# Altium integrated library Renesas Microcontroller R8C.IntLib: 628 symbols (part 28 of 33)
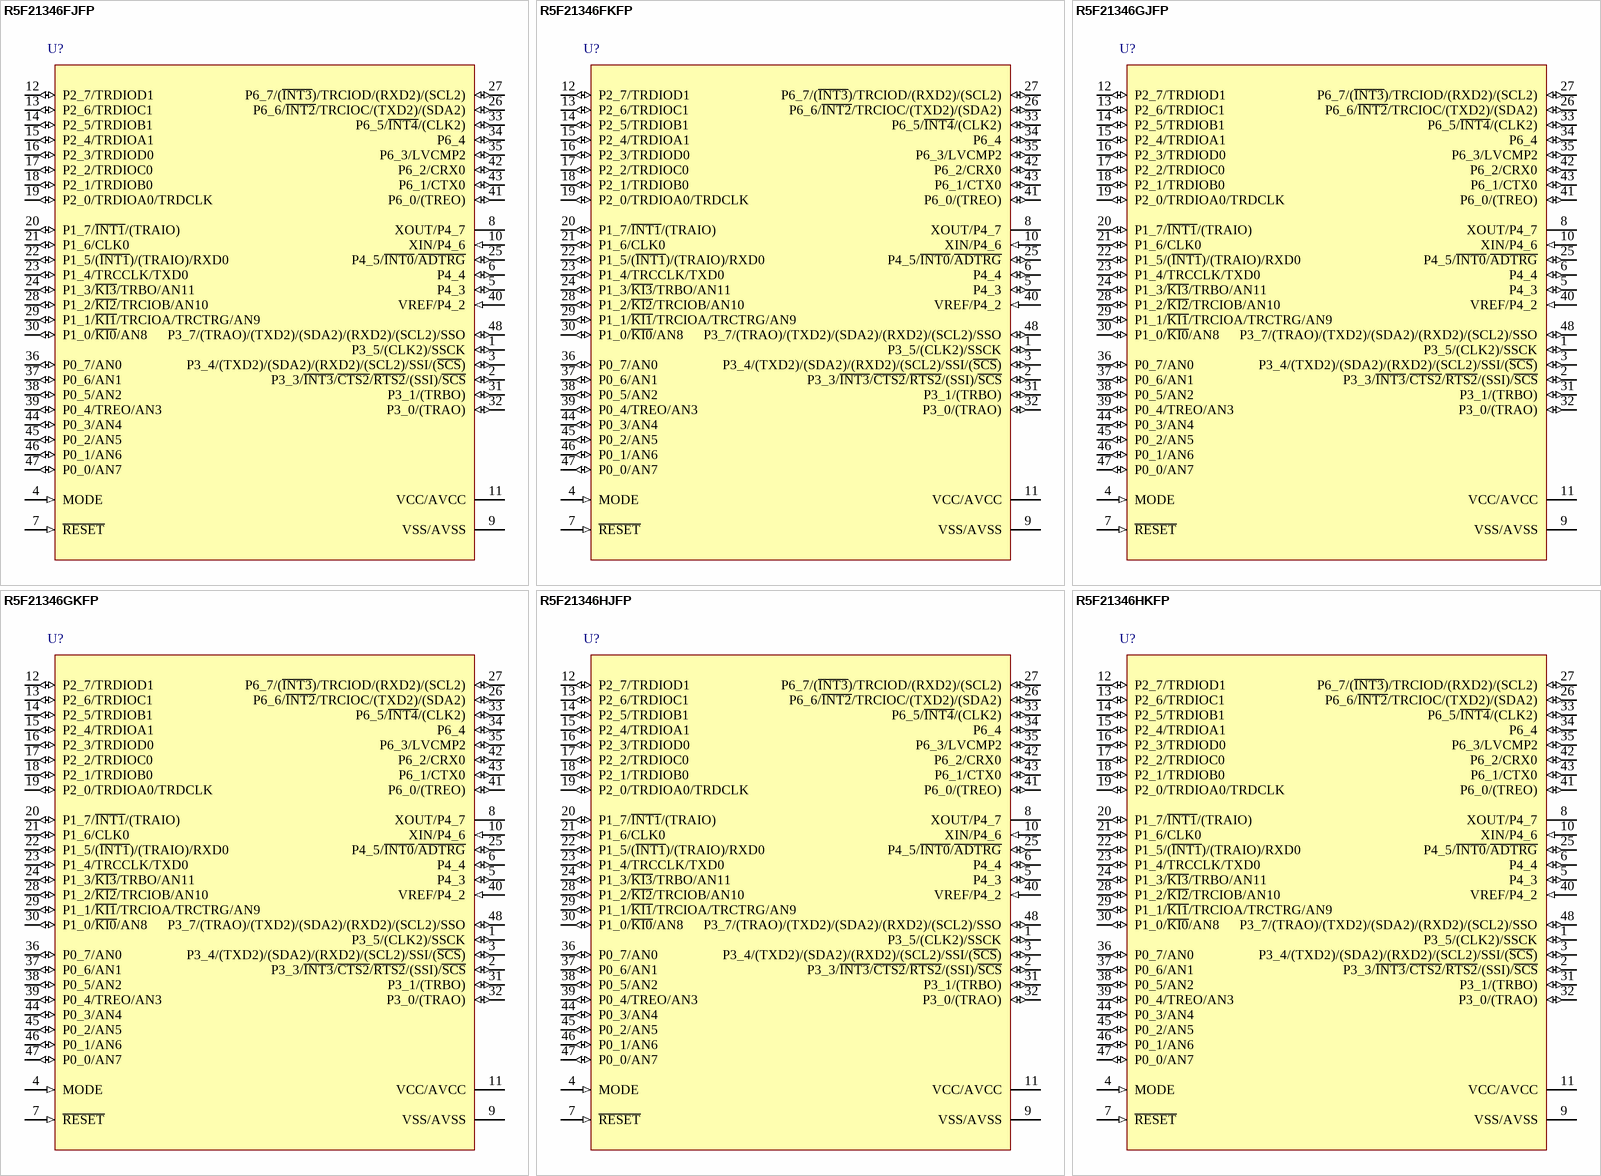
[diagram p143: symbols R5F21346FJFP to R5F21346HKFP]

## R5F21346FKFP
designator U?
R8C/34F Group Single Chip 16-Bit CMOS MCU, 32K ROM, 2.5K RAM, K Version; Published: 30-Oct-2009; DatasheetVersion: Rev.0.10, Apr-2008; PackageVersion: Oct-2005; PackageReference: PLQP0048KB-A; Publisher: Altium Limited; PackageDescription: 48-Pin Plastic Low Profile QFP, 7 x 7 x 1.4 mm Body, 0.5 mm Pitch; Code_JEITA: P-LQFP48-7x7-0.50; Code_IPC: SQFP50P900X900-48; ComponentLink1Description: Manufacturer Link; ComponentLink1URL: http://sg.renesas.com/fmwk.jsp?cnt=r8c_family_landing.jsp&fp=/products/mpumcu/r8c_family/; ComponentLink2Description: Datasheet; ComponentLink2URL: http://documentation.renesas.com/eng/products/mpumcu/rej03b0246_r8c34ess.pdf; ComponentLink3Description: Packaging Specification; ComponentLink3URL: http://sg.renesas.com/media/products/common_info/package/pdf/ic/code/plqp0048kb_a.pdf
footprint PLQP0048KB-A_N (Shrink QFP, 48-Leads, Body 7x7mm, Pitch 0.5mm, IPC Medium Density)
footprint PLQP0048KB-A_L (Shrink QFP, 48-Leads, Body 7x7mm, Pitch 0.5mm, IPC High Density)
footprint PLQP0048KB-A_M (Shrink QFP, 48-Leads, Body 7x7mm, Pitch 0.5mm, IPC Low Density)
pins: 1 P3_5/(CLK2)/SSCK (io), 2 P3_3/~{INT3}/~{CTS2}/~{RTS2}/(SSI)/~{SCS} (io), 3 P3_4/(TXD2)/(SDA2)/(RXD2)/(SCL2)/SSI/(~{SCS}) (io), 4 MODE (in), 5 P4_3 (io), 6 P4_4 (io), 7 ~{RESET} (in), 8 XOUT/P4_7, 9 VSS/AVSS (power), 10 XIN/P4_6 (in), 11 VCC/AVCC (power), 12 P2_7/TRDIOD1 (io), 13 P2_6/TRDIOC1 (io), 14 P2_5/TRDIOB1 (io), 15 P2_4/TRDIOA1 (io), 16 P2_3/TRDIOD0 (io), 17 P2_2/TRDIOC0 (io), 18 P2_1/TRDIOB0 (io), 19 P2_0/TRDIOA0/TRDCLK (io), 20 P1_7/~{INT1}/(TRAIO) (io), 21 P1_6/CLK0 (io), 22 P1_5/(~{INT1})/(TRAIO)/RXD0 (io), 23 P1_4/TRCCLK/TXD0 (io), 24 P1_3/~{KI3}/TRBO/AN11 (io), 25 P4_5/~{INT0}/~{ADTRG} (io), 26 P6_6/~{INT2}/TRCIOC/(TXD2)/(SDA2) (io), 27 P6_7/(~{INT3})/TRCIOD/(RXD2)/(SCL2) (io), 28 P1_2/~{KI2}/TRCIOB/AN10 (io), 29 P1_1/~{KI1}/TRCIOA/TRCTRG/AN9 (io), 30 P1_0/~{KI0}/AN8 (io), 31 P3_1/(TRBO) (io), 32 P3_0/(TRAO) (io), 33 P6_5/~{INT4}/(CLK2) (io), 34 P6_4 (io), 35 P6_3/LVCMP2 (io), 36 P0_7/AN0 (io), 37 P0_6/AN1 (io), 38 P0_5/AN2 (io), 39 P0_4/TREO/AN3 (io), 40 VREF/P4_2 (in), 41 P6_0/(TREO) (io), 42 P6_2/CRX0 (io), 43 P6_1/CTX0 (io), 44 P0_3/AN4 (io), 45 P0_2/AN5 (io), 46 P0_1/AN6 (io), 47 P0_0/AN7 (io), 48 P3_7/(TRAO)/(TXD2)/(SDA2)/(RXD2)/(SCL2)/SSO (io)

## R5F21346GJFP
designator U?
R8C/34G Group Single Chip 16-Bit CMOS MCU, 32K ROM + 1K x4 Data Flash, 2.5K RAM, J Version; Published: 30-Oct-2009; DatasheetVersion: Rev.0.10, Apr-2008; PackageVersion: Oct-2005; PackageReference: PLQP0048KB-A; Publisher: Altium Limited; PackageDescription: 48-Pin Plastic Low Profile QFP, 7 x 7 x 1.4 mm Body, 0.5 mm Pitch; Code_JEITA: P-LQFP48-7x7-0.50; Code_IPC: SQFP50P900X900-48; ComponentLink1Description: Manufacturer Link; ComponentLink1URL: http://sg.renesas.com/fmwk.jsp?cnt=r8c_family_landing.jsp&fp=/products/mpumcu/r8c_family/; ComponentLink2Description: Datasheet; ComponentLink2URL: http://documentation.renesas.com/eng/products/mpumcu/rej03b0246_r8c34ess.pdf; ComponentLink3Description: Packaging Specification; ComponentLink3URL: http://sg.renesas.com/media/products/common_info/package/pdf/ic/code/plqp0048kb_a.pdf
footprint PLQP0048KB-A_N (Shrink QFP, 48-Leads, Body 7x7mm, Pitch 0.5mm, IPC Medium Density)
footprint PLQP0048KB-A_L (Shrink QFP, 48-Leads, Body 7x7mm, Pitch 0.5mm, IPC High Density)
footprint PLQP0048KB-A_M (Shrink QFP, 48-Leads, Body 7x7mm, Pitch 0.5mm, IPC Low Density)
pins: 1 P3_5/(CLK2)/SSCK (io), 2 P3_3/~{INT3}/~{CTS2}/~{RTS2}/(SSI)/~{SCS} (io), 3 P3_4/(TXD2)/(SDA2)/(RXD2)/(SCL2)/SSI/(~{SCS}) (io), 4 MODE (in), 5 P4_3 (io), 6 P4_4 (io), 7 ~{RESET} (in), 8 XOUT/P4_7, 9 VSS/AVSS (power), 10 XIN/P4_6 (in), 11 VCC/AVCC (power), 12 P2_7/TRDIOD1 (io), 13 P2_6/TRDIOC1 (io), 14 P2_5/TRDIOB1 (io), 15 P2_4/TRDIOA1 (io), 16 P2_3/TRDIOD0 (io), 17 P2_2/TRDIOC0 (io), 18 P2_1/TRDIOB0 (io), 19 P2_0/TRDIOA0/TRDCLK (io), 20 P1_7/~{INT1}/(TRAIO) (io), 21 P1_6/CLK0 (io), 22 P1_5/(~{INT1})/(TRAIO)/RXD0 (io), 23 P1_4/TRCCLK/TXD0 (io), 24 P1_3/~{KI3}/TRBO/AN11 (io), 25 P4_5/~{INT0}/~{ADTRG} (io), 26 P6_6/~{INT2}/TRCIOC/(TXD2)/(SDA2) (io), 27 P6_7/(~{INT3})/TRCIOD/(RXD2)/(SCL2) (io), 28 P1_2/~{KI2}/TRCIOB/AN10 (io), 29 P1_1/~{KI1}/TRCIOA/TRCTRG/AN9 (io), 30 P1_0/~{KI0}/AN8 (io), 31 P3_1/(TRBO) (io), 32 P3_0/(TRAO) (io), 33 P6_5/~{INT4}/(CLK2) (io), 34 P6_4 (io), 35 P6_3/LVCMP2 (io), 36 P0_7/AN0 (io), 37 P0_6/AN1 (io), 38 P0_5/AN2 (io), 39 P0_4/TREO/AN3 (io), 40 VREF/P4_2 (in), 41 P6_0/(TREO) (io), 42 P6_2/CRX0 (io), 43 P6_1/CTX0 (io), 44 P0_3/AN4 (io), 45 P0_2/AN5 (io), 46 P0_1/AN6 (io), 47 P0_0/AN7 (io), 48 P3_7/(TRAO)/(TXD2)/(SDA2)/(RXD2)/(SCL2)/SSO (io)

## R5F21346GKFP
designator U?
R8C/34G Group Single Chip 16-Bit CMOS MCU, 32K ROM + 1K x4 Data Flash, 2.5K RAM, K Version; Published: 30-Oct-2009; DatasheetVersion: Rev.0.10, Apr-2008; PackageVersion: Oct-2005; PackageReference: PLQP0048KB-A; Publisher: Altium Limited; PackageDescription: 48-Pin Plastic Low Profile QFP, 7 x 7 x 1.4 mm Body, 0.5 mm Pitch; Code_JEITA: P-LQFP48-7x7-0.50; Code_IPC: SQFP50P900X900-48; ComponentLink1Description: Manufacturer Link; ComponentLink1URL: http://sg.renesas.com/fmwk.jsp?cnt=r8c_family_landing.jsp&fp=/products/mpumcu/r8c_family/; ComponentLink2Description: Datasheet; ComponentLink2URL: http://documentation.renesas.com/eng/products/mpumcu/rej03b0246_r8c34ess.pdf; ComponentLink3Description: Packaging Specification; ComponentLink3URL: http://sg.renesas.com/media/products/common_info/package/pdf/ic/code/plqp0048kb_a.pdf
footprint PLQP0048KB-A_N (Shrink QFP, 48-Leads, Body 7x7mm, Pitch 0.5mm, IPC Medium Density)
footprint PLQP0048KB-A_L (Shrink QFP, 48-Leads, Body 7x7mm, Pitch 0.5mm, IPC High Density)
footprint PLQP0048KB-A_M (Shrink QFP, 48-Leads, Body 7x7mm, Pitch 0.5mm, IPC Low Density)
pins: 1 P3_5/(CLK2)/SSCK (io), 2 P3_3/~{INT3}/~{CTS2}/~{RTS2}/(SSI)/~{SCS} (io), 3 P3_4/(TXD2)/(SDA2)/(RXD2)/(SCL2)/SSI/(~{SCS}) (io), 4 MODE (in), 5 P4_3 (io), 6 P4_4 (io), 7 ~{RESET} (in), 8 XOUT/P4_7, 9 VSS/AVSS (power), 10 XIN/P4_6 (in), 11 VCC/AVCC (power), 12 P2_7/TRDIOD1 (io), 13 P2_6/TRDIOC1 (io), 14 P2_5/TRDIOB1 (io), 15 P2_4/TRDIOA1 (io), 16 P2_3/TRDIOD0 (io), 17 P2_2/TRDIOC0 (io), 18 P2_1/TRDIOB0 (io), 19 P2_0/TRDIOA0/TRDCLK (io), 20 P1_7/~{INT1}/(TRAIO) (io), 21 P1_6/CLK0 (io), 22 P1_5/(~{INT1})/(TRAIO)/RXD0 (io), 23 P1_4/TRCCLK/TXD0 (io), 24 P1_3/~{KI3}/TRBO/AN11 (io), 25 P4_5/~{INT0}/~{ADTRG} (io), 26 P6_6/~{INT2}/TRCIOC/(TXD2)/(SDA2) (io), 27 P6_7/(~{INT3})/TRCIOD/(RXD2)/(SCL2) (io), 28 P1_2/~{KI2}/TRCIOB/AN10 (io), 29 P1_1/~{KI1}/TRCIOA/TRCTRG/AN9 (io), 30 P1_0/~{KI0}/AN8 (io), 31 P3_1/(TRBO) (io), 32 P3_0/(TRAO) (io), 33 P6_5/~{INT4}/(CLK2) (io), 34 P6_4 (io), 35 P6_3/LVCMP2 (io), 36 P0_7/AN0 (io), 37 P0_6/AN1 (io), 38 P0_5/AN2 (io), 39 P0_4/TREO/AN3 (io), 40 VREF/P4_2 (in), 41 P6_0/(TREO) (io), 42 P6_2/CRX0 (io), 43 P6_1/CTX0 (io), 44 P0_3/AN4 (io), 45 P0_2/AN5 (io), 46 P0_1/AN6 (io), 47 P0_0/AN7 (io), 48 P3_7/(TRAO)/(TXD2)/(SDA2)/(RXD2)/(SCL2)/SSO (io)

## R5F21346HJFP
designator U?
R8C/34H Group Single Chip 16-Bit CMOS MCU, 32K ROM, 2.5K RAM, J Version; Published: 30-Oct-2009; DatasheetVersion: Rev.0.10, Apr-2008; PackageVersion: Oct-2005; PackageReference: PLQP0048KB-A; Publisher: Altium Limited; PackageDescription: 48-Pin Plastic Low Profile QFP, 7 x 7 x 1.4 mm Body, 0.5 mm Pitch; Code_JEITA: P-LQFP48-7x7-0.50; Code_IPC: SQFP50P900X900-48; ComponentLink1Description: Manufacturer Link; ComponentLink1URL: http://sg.renesas.com/fmwk.jsp?cnt=r8c_family_landing.jsp&fp=/products/mpumcu/r8c_family/; ComponentLink2Description: Datasheet; ComponentLink2URL: http://documentation.renesas.com/eng/products/mpumcu/rej03b0246_r8c34ess.pdf; ComponentLink3Description: Packaging Specification; ComponentLink3URL: http://sg.renesas.com/media/products/common_info/package/pdf/ic/code/plqp0048kb_a.pdf
footprint PLQP0048KB-A_N (Shrink QFP, 48-Leads, Body 7x7mm, Pitch 0.5mm, IPC Medium Density)
footprint PLQP0048KB-A_L (Shrink QFP, 48-Leads, Body 7x7mm, Pitch 0.5mm, IPC High Density)
footprint PLQP0048KB-A_M (Shrink QFP, 48-Leads, Body 7x7mm, Pitch 0.5mm, IPC Low Density)
pins: 1 P3_5/(CLK2)/SSCK (io), 2 P3_3/~{INT3}/~{CTS2}/~{RTS2}/(SSI)/~{SCS} (io), 3 P3_4/(TXD2)/(SDA2)/(RXD2)/(SCL2)/SSI/(~{SCS}) (io), 4 MODE (in), 5 P4_3 (io), 6 P4_4 (io), 7 ~{RESET} (in), 8 XOUT/P4_7, 9 VSS/AVSS (power), 10 XIN/P4_6 (in), 11 VCC/AVCC (power), 12 P2_7/TRDIOD1 (io), 13 P2_6/TRDIOC1 (io), 14 P2_5/TRDIOB1 (io), 15 P2_4/TRDIOA1 (io), 16 P2_3/TRDIOD0 (io), 17 P2_2/TRDIOC0 (io), 18 P2_1/TRDIOB0 (io), 19 P2_0/TRDIOA0/TRDCLK (io), 20 P1_7/~{INT1}/(TRAIO) (io), 21 P1_6/CLK0 (io), 22 P1_5/(~{INT1})/(TRAIO)/RXD0 (io), 23 P1_4/TRCCLK/TXD0 (io), 24 P1_3/~{KI3}/TRBO/AN11 (io), 25 P4_5/~{INT0}/~{ADTRG} (io), 26 P6_6/~{INT2}/TRCIOC/(TXD2)/(SDA2) (io), 27 P6_7/(~{INT3})/TRCIOD/(RXD2)/(SCL2) (io), 28 P1_2/~{KI2}/TRCIOB/AN10 (io), 29 P1_1/~{KI1}/TRCIOA/TRCTRG/AN9 (io), 30 P1_0/~{KI0}/AN8 (io), 31 P3_1/(TRBO) (io), 32 P3_0/(TRAO) (io), 33 P6_5/~{INT4}/(CLK2) (io), 34 P6_4 (io), 35 P6_3/LVCMP2 (io), 36 P0_7/AN0 (io), 37 P0_6/AN1 (io), 38 P0_5/AN2 (io), 39 P0_4/TREO/AN3 (io), 40 VREF/P4_2 (in), 41 P6_0/(TREO) (io), 42 P6_2/CRX0 (io), 43 P6_1/CTX0 (io), 44 P0_3/AN4 (io), 45 P0_2/AN5 (io), 46 P0_1/AN6 (io), 47 P0_0/AN7 (io), 48 P3_7/(TRAO)/(TXD2)/(SDA2)/(RXD2)/(SCL2)/SSO (io)

## R5F21346HKFP
designator U?
R8C/34H Group Single Chip 16-Bit CMOS MCU, 32K ROM, 2.5K RAM, K Version; Published: 30-Oct-2009; DatasheetVersion: Rev.0.10, Apr-2008; PackageVersion: Oct-2005; PackageReference: PLQP0048KB-A; Publisher: Altium Limited; PackageDescription: 48-Pin Plastic Low Profile QFP, 7 x 7 x 1.4 mm Body, 0.5 mm Pitch; Code_JEITA: P-LQFP48-7x7-0.50; Code_IPC: SQFP50P900X900-48; ComponentLink1Description: Manufacturer Link; ComponentLink1URL: http://sg.renesas.com/fmwk.jsp?cnt=r8c_family_landing.jsp&fp=/products/mpumcu/r8c_family/; ComponentLink2Description: Datasheet; ComponentLink2URL: http://documentation.renesas.com/eng/products/mpumcu/rej03b0246_r8c34ess.pdf; ComponentLink3Description: Packaging Specification; ComponentLink3URL: http://sg.renesas.com/media/products/common_info/package/pdf/ic/code/plqp0048kb_a.pdf
footprint PLQP0048KB-A_N (Shrink QFP, 48-Leads, Body 7x7mm, Pitch 0.5mm, IPC Medium Density)
footprint PLQP0048KB-A_L (Shrink QFP, 48-Leads, Body 7x7mm, Pitch 0.5mm, IPC High Density)
footprint PLQP0048KB-A_M (Shrink QFP, 48-Leads, Body 7x7mm, Pitch 0.5mm, IPC Low Density)
pins: 1 P3_5/(CLK2)/SSCK (io), 2 P3_3/~{INT3}/~{CTS2}/~{RTS2}/(SSI)/~{SCS} (io), 3 P3_4/(TXD2)/(SDA2)/(RXD2)/(SCL2)/SSI/(~{SCS}) (io), 4 MODE (in), 5 P4_3 (io), 6 P4_4 (io), 7 ~{RESET} (in), 8 XOUT/P4_7, 9 VSS/AVSS (power), 10 XIN/P4_6 (in), 11 VCC/AVCC (power), 12 P2_7/TRDIOD1 (io), 13 P2_6/TRDIOC1 (io), 14 P2_5/TRDIOB1 (io), 15 P2_4/TRDIOA1 (io), 16 P2_3/TRDIOD0 (io), 17 P2_2/TRDIOC0 (io), 18 P2_1/TRDIOB0 (io), 19 P2_0/TRDIOA0/TRDCLK (io), 20 P1_7/~{INT1}/(TRAIO) (io), 21 P1_6/CLK0 (io), 22 P1_5/(~{INT1})/(TRAIO)/RXD0 (io), 23 P1_4/TRCCLK/TXD0 (io), 24 P1_3/~{KI3}/TRBO/AN11 (io), 25 P4_5/~{INT0}/~{ADTRG} (io), 26 P6_6/~{INT2}/TRCIOC/(TXD2)/(SDA2) (io), 27 P6_7/(~{INT3})/TRCIOD/(RXD2)/(SCL2) (io), 28 P1_2/~{KI2}/TRCIOB/AN10 (io), 29 P1_1/~{KI1}/TRCIOA/TRCTRG/AN9 (io), 30 P1_0/~{KI0}/AN8 (io), 31 P3_1/(TRBO) (io), 32 P3_0/(TRAO) (io), 33 P6_5/~{INT4}/(CLK2) (io), 34 P6_4 (io), 35 P6_3/LVCMP2 (io), 36 P0_7/AN0 (io), 37 P0_6/AN1 (io), 38 P0_5/AN2 (io), 39 P0_4/TREO/AN3 (io), 40 VREF/P4_2 (in), 41 P6_0/(TREO) (io), 42 P6_2/CRX0 (io), 43 P6_1/CTX0 (io), 44 P0_3/AN4 (io), 45 P0_2/AN5 (io), 46 P0_1/AN6 (io), 47 P0_0/AN7 (io), 48 P3_7/(TRAO)/(TXD2)/(SDA2)/(RXD2)/(SCL2)/SSO (io)

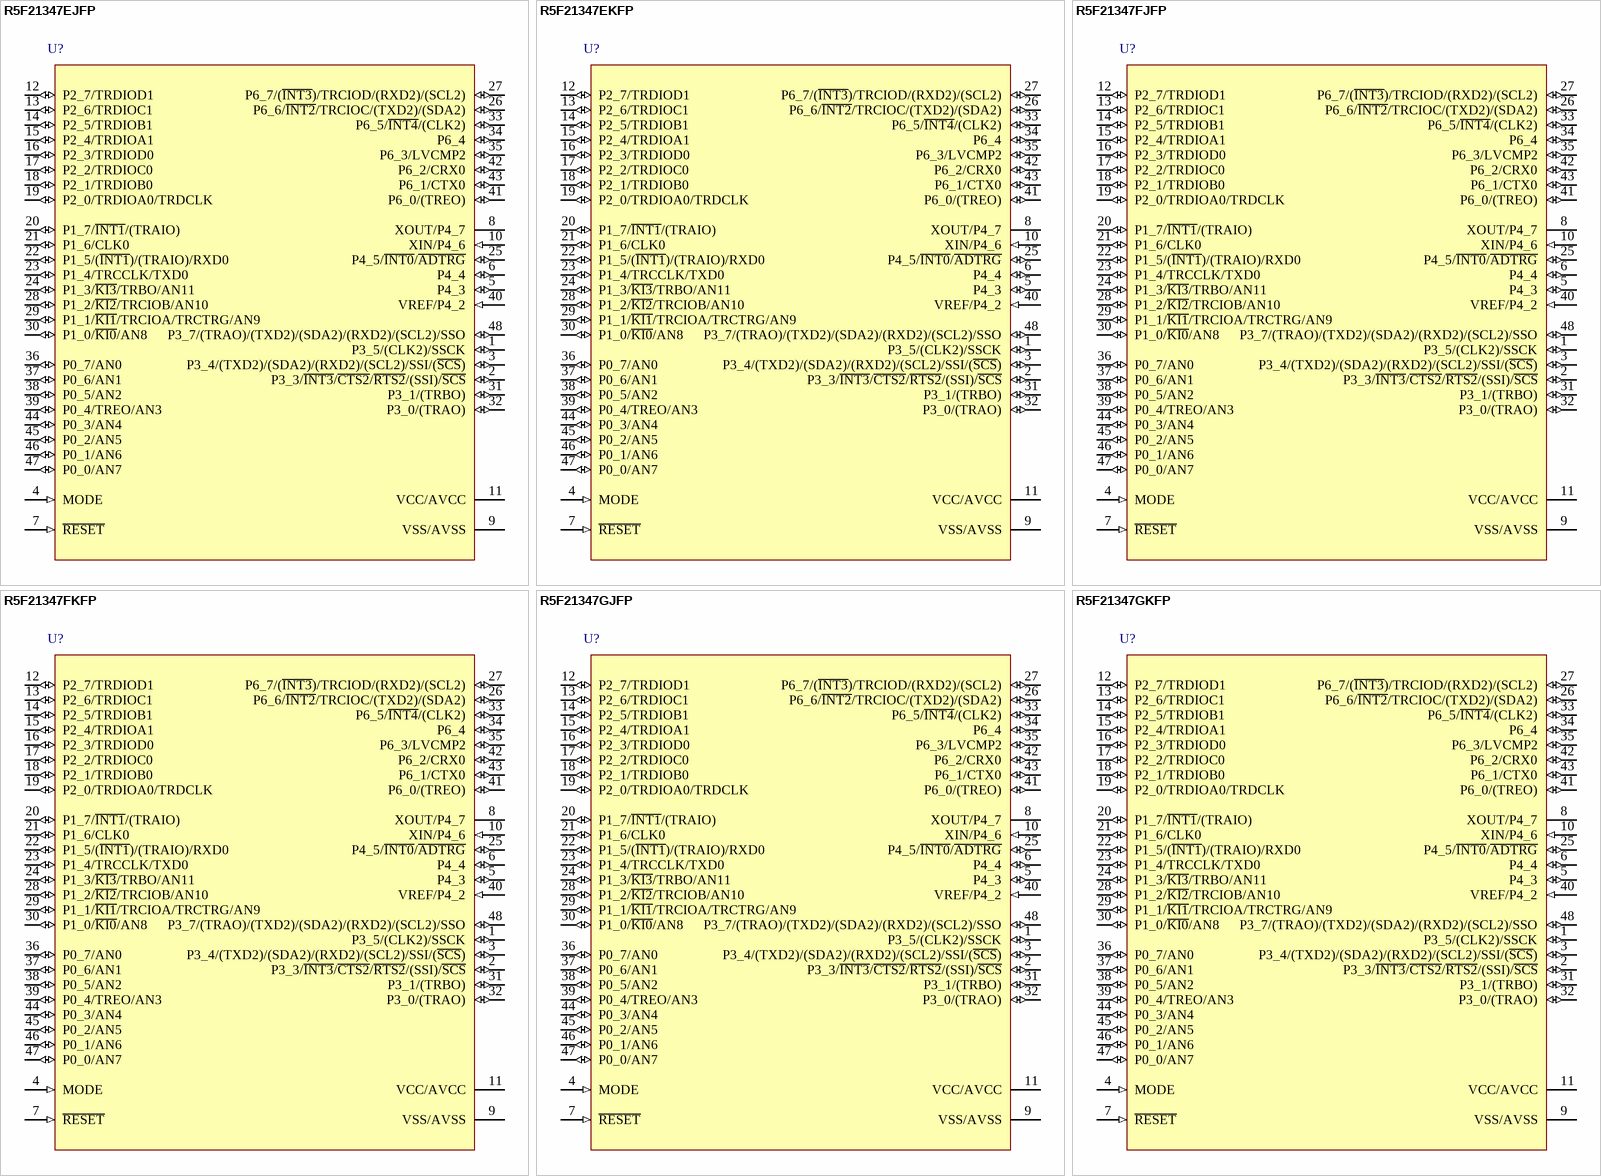
[diagram p96: symbols R5F21347EJFP to R5F21347GKFP]

## R5F21347EJFP
designator U?
R8C/34E Group Single Chip 16-Bit CMOS MCU, 48K ROM + 1K x4 Data Flash, 4K RAM, J Version; Published: 30-Oct-2009; DatasheetVersion: Rev.0.10, Apr-2008; PackageVersion: Oct-2005; PackageReference: PLQP0048KB-A; Publisher: Altium Limited; PackageDescription: 48-Pin Plastic Low Profile QFP, 7 x 7 x 1.4 mm Body, 0.5 mm Pitch; Code_JEITA: P-LQFP48-7x7-0.50; Code_IPC: SQFP50P900X900-48; ComponentLink1Description: Manufacturer Link; ComponentLink1URL: http://sg.renesas.com/fmwk.jsp?cnt=r8c_family_landing.jsp&fp=/products/mpumcu/r8c_family/; ComponentLink2Description: Datasheet; ComponentLink2URL: http://documentation.renesas.com/eng/products/mpumcu/rej03b0246_r8c34ess.pdf; ComponentLink3Description: Packaging Specification; ComponentLink3URL: http://sg.renesas.com/media/products/common_info/package/pdf/ic/code/plqp0048kb_a.pdf
footprint PLQP0048KB-A_N (Shrink QFP, 48-Leads, Body 7x7mm, Pitch 0.5mm, IPC Medium Density)
footprint PLQP0048KB-A_L (Shrink QFP, 48-Leads, Body 7x7mm, Pitch 0.5mm, IPC High Density)
footprint PLQP0048KB-A_M (Shrink QFP, 48-Leads, Body 7x7mm, Pitch 0.5mm, IPC Low Density)
pins: 1 P3_5/(CLK2)/SSCK (io), 2 P3_3/~{INT3}/~{CTS2}/~{RTS2}/(SSI)/~{SCS} (io), 3 P3_4/(TXD2)/(SDA2)/(RXD2)/(SCL2)/SSI/(~{SCS}) (io), 4 MODE (in), 5 P4_3 (io), 6 P4_4 (io), 7 ~{RESET} (in), 8 XOUT/P4_7, 9 VSS/AVSS (power), 10 XIN/P4_6 (in), 11 VCC/AVCC (power), 12 P2_7/TRDIOD1 (io), 13 P2_6/TRDIOC1 (io), 14 P2_5/TRDIOB1 (io), 15 P2_4/TRDIOA1 (io), 16 P2_3/TRDIOD0 (io), 17 P2_2/TRDIOC0 (io), 18 P2_1/TRDIOB0 (io), 19 P2_0/TRDIOA0/TRDCLK (io), 20 P1_7/~{INT1}/(TRAIO) (io), 21 P1_6/CLK0 (io), 22 P1_5/(~{INT1})/(TRAIO)/RXD0 (io), 23 P1_4/TRCCLK/TXD0 (io), 24 P1_3/~{KI3}/TRBO/AN11 (io), 25 P4_5/~{INT0}/~{ADTRG} (io), 26 P6_6/~{INT2}/TRCIOC/(TXD2)/(SDA2) (io), 27 P6_7/(~{INT3})/TRCIOD/(RXD2)/(SCL2) (io), 28 P1_2/~{KI2}/TRCIOB/AN10 (io), 29 P1_1/~{KI1}/TRCIOA/TRCTRG/AN9 (io), 30 P1_0/~{KI0}/AN8 (io), 31 P3_1/(TRBO) (io), 32 P3_0/(TRAO) (io), 33 P6_5/~{INT4}/(CLK2) (io), 34 P6_4 (io), 35 P6_3/LVCMP2 (io), 36 P0_7/AN0 (io), 37 P0_6/AN1 (io), 38 P0_5/AN2 (io), 39 P0_4/TREO/AN3 (io), 40 VREF/P4_2 (in), 41 P6_0/(TREO) (io), 42 P6_2/CRX0 (io), 43 P6_1/CTX0 (io), 44 P0_3/AN4 (io), 45 P0_2/AN5 (io), 46 P0_1/AN6 (io), 47 P0_0/AN7 (io), 48 P3_7/(TRAO)/(TXD2)/(SDA2)/(RXD2)/(SCL2)/SSO (io)

## R5F21347EKFP
designator U?
R8C/34E Group Single Chip 16-Bit CMOS MCU, 48K ROM + 1K x4 Data Flash, 4K RAM, K Version; Published: 30-Oct-2009; DatasheetVersion: Rev.0.10, Apr-2008; PackageVersion: Oct-2005; PackageReference: PLQP0048KB-A; Publisher: Altium Limited; PackageDescription: 48-Pin Plastic Low Profile QFP, 7 x 7 x 1.4 mm Body, 0.5 mm Pitch; Code_JEITA: P-LQFP48-7x7-0.50; Code_IPC: SQFP50P900X900-48; ComponentLink1Description: Manufacturer Link; ComponentLink1URL: http://sg.renesas.com/fmwk.jsp?cnt=r8c_family_landing.jsp&fp=/products/mpumcu/r8c_family/; ComponentLink2Description: Datasheet; ComponentLink2URL: http://documentation.renesas.com/eng/products/mpumcu/rej03b0246_r8c34ess.pdf; ComponentLink3Description: Packaging Specification; ComponentLink3URL: http://sg.renesas.com/media/products/common_info/package/pdf/ic/code/plqp0048kb_a.pdf
footprint PLQP0048KB-A_N (Shrink QFP, 48-Leads, Body 7x7mm, Pitch 0.5mm, IPC Medium Density)
footprint PLQP0048KB-A_L (Shrink QFP, 48-Leads, Body 7x7mm, Pitch 0.5mm, IPC High Density)
footprint PLQP0048KB-A_M (Shrink QFP, 48-Leads, Body 7x7mm, Pitch 0.5mm, IPC Low Density)
pins: 1 P3_5/(CLK2)/SSCK (io), 2 P3_3/~{INT3}/~{CTS2}/~{RTS2}/(SSI)/~{SCS} (io), 3 P3_4/(TXD2)/(SDA2)/(RXD2)/(SCL2)/SSI/(~{SCS}) (io), 4 MODE (in), 5 P4_3 (io), 6 P4_4 (io), 7 ~{RESET} (in), 8 XOUT/P4_7, 9 VSS/AVSS (power), 10 XIN/P4_6 (in), 11 VCC/AVCC (power), 12 P2_7/TRDIOD1 (io), 13 P2_6/TRDIOC1 (io), 14 P2_5/TRDIOB1 (io), 15 P2_4/TRDIOA1 (io), 16 P2_3/TRDIOD0 (io), 17 P2_2/TRDIOC0 (io), 18 P2_1/TRDIOB0 (io), 19 P2_0/TRDIOA0/TRDCLK (io), 20 P1_7/~{INT1}/(TRAIO) (io), 21 P1_6/CLK0 (io), 22 P1_5/(~{INT1})/(TRAIO)/RXD0 (io), 23 P1_4/TRCCLK/TXD0 (io), 24 P1_3/~{KI3}/TRBO/AN11 (io), 25 P4_5/~{INT0}/~{ADTRG} (io), 26 P6_6/~{INT2}/TRCIOC/(TXD2)/(SDA2) (io), 27 P6_7/(~{INT3})/TRCIOD/(RXD2)/(SCL2) (io), 28 P1_2/~{KI2}/TRCIOB/AN10 (io), 29 P1_1/~{KI1}/TRCIOA/TRCTRG/AN9 (io), 30 P1_0/~{KI0}/AN8 (io), 31 P3_1/(TRBO) (io), 32 P3_0/(TRAO) (io), 33 P6_5/~{INT4}/(CLK2) (io), 34 P6_4 (io), 35 P6_3/LVCMP2 (io), 36 P0_7/AN0 (io), 37 P0_6/AN1 (io), 38 P0_5/AN2 (io), 39 P0_4/TREO/AN3 (io), 40 VREF/P4_2 (in), 41 P6_0/(TREO) (io), 42 P6_2/CRX0 (io), 43 P6_1/CTX0 (io), 44 P0_3/AN4 (io), 45 P0_2/AN5 (io), 46 P0_1/AN6 (io), 47 P0_0/AN7 (io), 48 P3_7/(TRAO)/(TXD2)/(SDA2)/(RXD2)/(SCL2)/SSO (io)

## R5F21347FJFP
designator U?
R8C/34F Group Single Chip 16-Bit CMOS MCU, 48K ROM, 4K RAM, J Version; Published: 30-Oct-2009; DatasheetVersion: Rev.0.10, Apr-2008; PackageVersion: Oct-2005; PackageReference: PLQP0048KB-A; Publisher: Altium Limited; PackageDescription: 48-Pin Plastic Low Profile QFP, 7 x 7 x 1.4 mm Body, 0.5 mm Pitch; Code_JEITA: P-LQFP48-7x7-0.50; Code_IPC: SQFP50P900X900-48; ComponentLink1Description: Manufacturer Link; ComponentLink1URL: http://sg.renesas.com/fmwk.jsp?cnt=r8c_family_landing.jsp&fp=/products/mpumcu/r8c_family/; ComponentLink2Description: Datasheet; ComponentLink2URL: http://documentation.renesas.com/eng/products/mpumcu/rej03b0246_r8c34ess.pdf; ComponentLink3Description: Packaging Specification; ComponentLink3URL: http://sg.renesas.com/media/products/common_info/package/pdf/ic/code/plqp0048kb_a.pdf
footprint PLQP0048KB-A_N (Shrink QFP, 48-Leads, Body 7x7mm, Pitch 0.5mm, IPC Medium Density)
footprint PLQP0048KB-A_L (Shrink QFP, 48-Leads, Body 7x7mm, Pitch 0.5mm, IPC High Density)
footprint PLQP0048KB-A_M (Shrink QFP, 48-Leads, Body 7x7mm, Pitch 0.5mm, IPC Low Density)
pins: 1 P3_5/(CLK2)/SSCK (io), 2 P3_3/~{INT3}/~{CTS2}/~{RTS2}/(SSI)/~{SCS} (io), 3 P3_4/(TXD2)/(SDA2)/(RXD2)/(SCL2)/SSI/(~{SCS}) (io), 4 MODE (in), 5 P4_3 (io), 6 P4_4 (io), 7 ~{RESET} (in), 8 XOUT/P4_7, 9 VSS/AVSS (power), 10 XIN/P4_6 (in), 11 VCC/AVCC (power), 12 P2_7/TRDIOD1 (io), 13 P2_6/TRDIOC1 (io), 14 P2_5/TRDIOB1 (io), 15 P2_4/TRDIOA1 (io), 16 P2_3/TRDIOD0 (io), 17 P2_2/TRDIOC0 (io), 18 P2_1/TRDIOB0 (io), 19 P2_0/TRDIOA0/TRDCLK (io), 20 P1_7/~{INT1}/(TRAIO) (io), 21 P1_6/CLK0 (io), 22 P1_5/(~{INT1})/(TRAIO)/RXD0 (io), 23 P1_4/TRCCLK/TXD0 (io), 24 P1_3/~{KI3}/TRBO/AN11 (io), 25 P4_5/~{INT0}/~{ADTRG} (io), 26 P6_6/~{INT2}/TRCIOC/(TXD2)/(SDA2) (io), 27 P6_7/(~{INT3})/TRCIOD/(RXD2)/(SCL2) (io), 28 P1_2/~{KI2}/TRCIOB/AN10 (io), 29 P1_1/~{KI1}/TRCIOA/TRCTRG/AN9 (io), 30 P1_0/~{KI0}/AN8 (io), 31 P3_1/(TRBO) (io), 32 P3_0/(TRAO) (io), 33 P6_5/~{INT4}/(CLK2) (io), 34 P6_4 (io), 35 P6_3/LVCMP2 (io), 36 P0_7/AN0 (io), 37 P0_6/AN1 (io), 38 P0_5/AN2 (io), 39 P0_4/TREO/AN3 (io), 40 VREF/P4_2 (in), 41 P6_0/(TREO) (io), 42 P6_2/CRX0 (io), 43 P6_1/CTX0 (io), 44 P0_3/AN4 (io), 45 P0_2/AN5 (io), 46 P0_1/AN6 (io), 47 P0_0/AN7 (io), 48 P3_7/(TRAO)/(TXD2)/(SDA2)/(RXD2)/(SCL2)/SSO (io)

## R5F21347FKFP
designator U?
R8C/34F Group Single Chip 16-Bit CMOS MCU, 48K ROM, 4K RAM, K Version; Published: 30-Oct-2009; DatasheetVersion: Rev.0.10, Apr-2008; PackageVersion: Oct-2005; PackageReference: PLQP0048KB-A; Publisher: Altium Limited; PackageDescription: 48-Pin Plastic Low Profile QFP, 7 x 7 x 1.4 mm Body, 0.5 mm Pitch; Code_JEITA: P-LQFP48-7x7-0.50; Code_IPC: SQFP50P900X900-48; ComponentLink1Description: Manufacturer Link; ComponentLink1URL: http://sg.renesas.com/fmwk.jsp?cnt=r8c_family_landing.jsp&fp=/products/mpumcu/r8c_family/; ComponentLink2Description: Datasheet; ComponentLink2URL: http://documentation.renesas.com/eng/products/mpumcu/rej03b0246_r8c34ess.pdf; ComponentLink3Description: Packaging Specification; ComponentLink3URL: http://sg.renesas.com/media/products/common_info/package/pdf/ic/code/plqp0048kb_a.pdf
footprint PLQP0048KB-A_N (Shrink QFP, 48-Leads, Body 7x7mm, Pitch 0.5mm, IPC Medium Density)
footprint PLQP0048KB-A_L (Shrink QFP, 48-Leads, Body 7x7mm, Pitch 0.5mm, IPC High Density)
footprint PLQP0048KB-A_M (Shrink QFP, 48-Leads, Body 7x7mm, Pitch 0.5mm, IPC Low Density)
pins: 1 P3_5/(CLK2)/SSCK (io), 2 P3_3/~{INT3}/~{CTS2}/~{RTS2}/(SSI)/~{SCS} (io), 3 P3_4/(TXD2)/(SDA2)/(RXD2)/(SCL2)/SSI/(~{SCS}) (io), 4 MODE (in), 5 P4_3 (io), 6 P4_4 (io), 7 ~{RESET} (in), 8 XOUT/P4_7, 9 VSS/AVSS (power), 10 XIN/P4_6 (in), 11 VCC/AVCC (power), 12 P2_7/TRDIOD1 (io), 13 P2_6/TRDIOC1 (io), 14 P2_5/TRDIOB1 (io), 15 P2_4/TRDIOA1 (io), 16 P2_3/TRDIOD0 (io), 17 P2_2/TRDIOC0 (io), 18 P2_1/TRDIOB0 (io), 19 P2_0/TRDIOA0/TRDCLK (io), 20 P1_7/~{INT1}/(TRAIO) (io), 21 P1_6/CLK0 (io), 22 P1_5/(~{INT1})/(TRAIO)/RXD0 (io), 23 P1_4/TRCCLK/TXD0 (io), 24 P1_3/~{KI3}/TRBO/AN11 (io), 25 P4_5/~{INT0}/~{ADTRG} (io), 26 P6_6/~{INT2}/TRCIOC/(TXD2)/(SDA2) (io), 27 P6_7/(~{INT3})/TRCIOD/(RXD2)/(SCL2) (io), 28 P1_2/~{KI2}/TRCIOB/AN10 (io), 29 P1_1/~{KI1}/TRCIOA/TRCTRG/AN9 (io), 30 P1_0/~{KI0}/AN8 (io), 31 P3_1/(TRBO) (io), 32 P3_0/(TRAO) (io), 33 P6_5/~{INT4}/(CLK2) (io), 34 P6_4 (io), 35 P6_3/LVCMP2 (io), 36 P0_7/AN0 (io), 37 P0_6/AN1 (io), 38 P0_5/AN2 (io), 39 P0_4/TREO/AN3 (io), 40 VREF/P4_2 (in), 41 P6_0/(TREO) (io), 42 P6_2/CRX0 (io), 43 P6_1/CTX0 (io), 44 P0_3/AN4 (io), 45 P0_2/AN5 (io), 46 P0_1/AN6 (io), 47 P0_0/AN7 (io), 48 P3_7/(TRAO)/(TXD2)/(SDA2)/(RXD2)/(SCL2)/SSO (io)

## R5F21347GJFP
designator U?
R8C/34G Group Single Chip 16-Bit CMOS MCU, 48K ROM + 1K x4 Data Flash, 4K RAM, J Version; Published: 30-Oct-2009; DatasheetVersion: Rev.0.10, Apr-2008; PackageVersion: Oct-2005; PackageReference: PLQP0048KB-A; Publisher: Altium Limited; PackageDescription: 48-Pin Plastic Low Profile QFP, 7 x 7 x 1.4 mm Body, 0.5 mm Pitch; Code_JEITA: P-LQFP48-7x7-0.50; Code_IPC: SQFP50P900X900-48; ComponentLink1Description: Manufacturer Link; ComponentLink1URL: http://sg.renesas.com/fmwk.jsp?cnt=r8c_family_landing.jsp&fp=/products/mpumcu/r8c_family/; ComponentLink2Description: Datasheet; ComponentLink2URL: http://documentation.renesas.com/eng/products/mpumcu/rej03b0246_r8c34ess.pdf; ComponentLink3Description: Packaging Specification; ComponentLink3URL: http://sg.renesas.com/media/products/common_info/package/pdf/ic/code/plqp0048kb_a.pdf
footprint PLQP0048KB-A_N (Shrink QFP, 48-Leads, Body 7x7mm, Pitch 0.5mm, IPC Medium Density)
footprint PLQP0048KB-A_L (Shrink QFP, 48-Leads, Body 7x7mm, Pitch 0.5mm, IPC High Density)
footprint PLQP0048KB-A_M (Shrink QFP, 48-Leads, Body 7x7mm, Pitch 0.5mm, IPC Low Density)
pins: 1 P3_5/(CLK2)/SSCK (io), 2 P3_3/~{INT3}/~{CTS2}/~{RTS2}/(SSI)/~{SCS} (io), 3 P3_4/(TXD2)/(SDA2)/(RXD2)/(SCL2)/SSI/(~{SCS}) (io), 4 MODE (in), 5 P4_3 (io), 6 P4_4 (io), 7 ~{RESET} (in), 8 XOUT/P4_7, 9 VSS/AVSS (power), 10 XIN/P4_6 (in), 11 VCC/AVCC (power), 12 P2_7/TRDIOD1 (io), 13 P2_6/TRDIOC1 (io), 14 P2_5/TRDIOB1 (io), 15 P2_4/TRDIOA1 (io), 16 P2_3/TRDIOD0 (io), 17 P2_2/TRDIOC0 (io), 18 P2_1/TRDIOB0 (io), 19 P2_0/TRDIOA0/TRDCLK (io), 20 P1_7/~{INT1}/(TRAIO) (io), 21 P1_6/CLK0 (io), 22 P1_5/(~{INT1})/(TRAIO)/RXD0 (io), 23 P1_4/TRCCLK/TXD0 (io), 24 P1_3/~{KI3}/TRBO/AN11 (io), 25 P4_5/~{INT0}/~{ADTRG} (io), 26 P6_6/~{INT2}/TRCIOC/(TXD2)/(SDA2) (io), 27 P6_7/(~{INT3})/TRCIOD/(RXD2)/(SCL2) (io), 28 P1_2/~{KI2}/TRCIOB/AN10 (io), 29 P1_1/~{KI1}/TRCIOA/TRCTRG/AN9 (io), 30 P1_0/~{KI0}/AN8 (io), 31 P3_1/(TRBO) (io), 32 P3_0/(TRAO) (io), 33 P6_5/~{INT4}/(CLK2) (io), 34 P6_4 (io), 35 P6_3/LVCMP2 (io), 36 P0_7/AN0 (io), 37 P0_6/AN1 (io), 38 P0_5/AN2 (io), 39 P0_4/TREO/AN3 (io), 40 VREF/P4_2 (in), 41 P6_0/(TREO) (io), 42 P6_2/CRX0 (io), 43 P6_1/CTX0 (io), 44 P0_3/AN4 (io), 45 P0_2/AN5 (io), 46 P0_1/AN6 (io), 47 P0_0/AN7 (io), 48 P3_7/(TRAO)/(TXD2)/(SDA2)/(RXD2)/(SCL2)/SSO (io)

## R5F21347GKFP
designator U?
R8C/34G Group Single Chip 16-Bit CMOS MCU, 48K ROM + 1K x4 Data Flash, 4K RAM, K Version; Published: 30-Oct-2009; DatasheetVersion: Rev.0.10, Apr-2008; PackageVersion: Oct-2005; PackageReference: PLQP0048KB-A; Publisher: Altium Limited; PackageDescription: 48-Pin Plastic Low Profile QFP, 7 x 7 x 1.4 mm Body, 0.5 mm Pitch; Code_JEITA: P-LQFP48-7x7-0.50; Code_IPC: SQFP50P900X900-48; ComponentLink1Description: Manufacturer Link; ComponentLink1URL: http://sg.renesas.com/fmwk.jsp?cnt=r8c_family_landing.jsp&fp=/products/mpumcu/r8c_family/; ComponentLink2Description: Datasheet; ComponentLink2URL: http://documentation.renesas.com/eng/products/mpumcu/rej03b0246_r8c34ess.pdf; ComponentLink3Description: Packaging Specification; ComponentLink3URL: http://sg.renesas.com/media/products/common_info/package/pdf/ic/code/plqp0048kb_a.pdf
footprint PLQP0048KB-A_N (Shrink QFP, 48-Leads, Body 7x7mm, Pitch 0.5mm, IPC Medium Density)
footprint PLQP0048KB-A_L (Shrink QFP, 48-Leads, Body 7x7mm, Pitch 0.5mm, IPC High Density)
footprint PLQP0048KB-A_M (Shrink QFP, 48-Leads, Body 7x7mm, Pitch 0.5mm, IPC Low Density)
pins: 1 P3_5/(CLK2)/SSCK (io), 2 P3_3/~{INT3}/~{CTS2}/~{RTS2}/(SSI)/~{SCS} (io), 3 P3_4/(TXD2)/(SDA2)/(RXD2)/(SCL2)/SSI/(~{SCS}) (io), 4 MODE (in), 5 P4_3 (io), 6 P4_4 (io), 7 ~{RESET} (in), 8 XOUT/P4_7, 9 VSS/AVSS (power), 10 XIN/P4_6 (in), 11 VCC/AVCC (power), 12 P2_7/TRDIOD1 (io), 13 P2_6/TRDIOC1 (io), 14 P2_5/TRDIOB1 (io), 15 P2_4/TRDIOA1 (io), 16 P2_3/TRDIOD0 (io), 17 P2_2/TRDIOC0 (io), 18 P2_1/TRDIOB0 (io), 19 P2_0/TRDIOA0/TRDCLK (io), 20 P1_7/~{INT1}/(TRAIO) (io), 21 P1_6/CLK0 (io), 22 P1_5/(~{INT1})/(TRAIO)/RXD0 (io), 23 P1_4/TRCCLK/TXD0 (io), 24 P1_3/~{KI3}/TRBO/AN11 (io), 25 P4_5/~{INT0}/~{ADTRG} (io), 26 P6_6/~{INT2}/TRCIOC/(TXD2)/(SDA2) (io), 27 P6_7/(~{INT3})/TRCIOD/(RXD2)/(SCL2) (io), 28 P1_2/~{KI2}/TRCIOB/AN10 (io), 29 P1_1/~{KI1}/TRCIOA/TRCTRG/AN9 (io), 30 P1_0/~{KI0}/AN8 (io), 31 P3_1/(TRBO) (io), 32 P3_0/(TRAO) (io), 33 P6_5/~{INT4}/(CLK2) (io), 34 P6_4 (io), 35 P6_3/LVCMP2 (io), 36 P0_7/AN0 (io), 37 P0_6/AN1 (io), 38 P0_5/AN2 (io), 39 P0_4/TREO/AN3 (io), 40 VREF/P4_2 (in), 41 P6_0/(TREO) (io), 42 P6_2/CRX0 (io), 43 P6_1/CTX0 (io), 44 P0_3/AN4 (io), 45 P0_2/AN5 (io), 46 P0_1/AN6 (io), 47 P0_0/AN7 (io), 48 P3_7/(TRAO)/(TXD2)/(SDA2)/(RXD2)/(SCL2)/SSO (io)

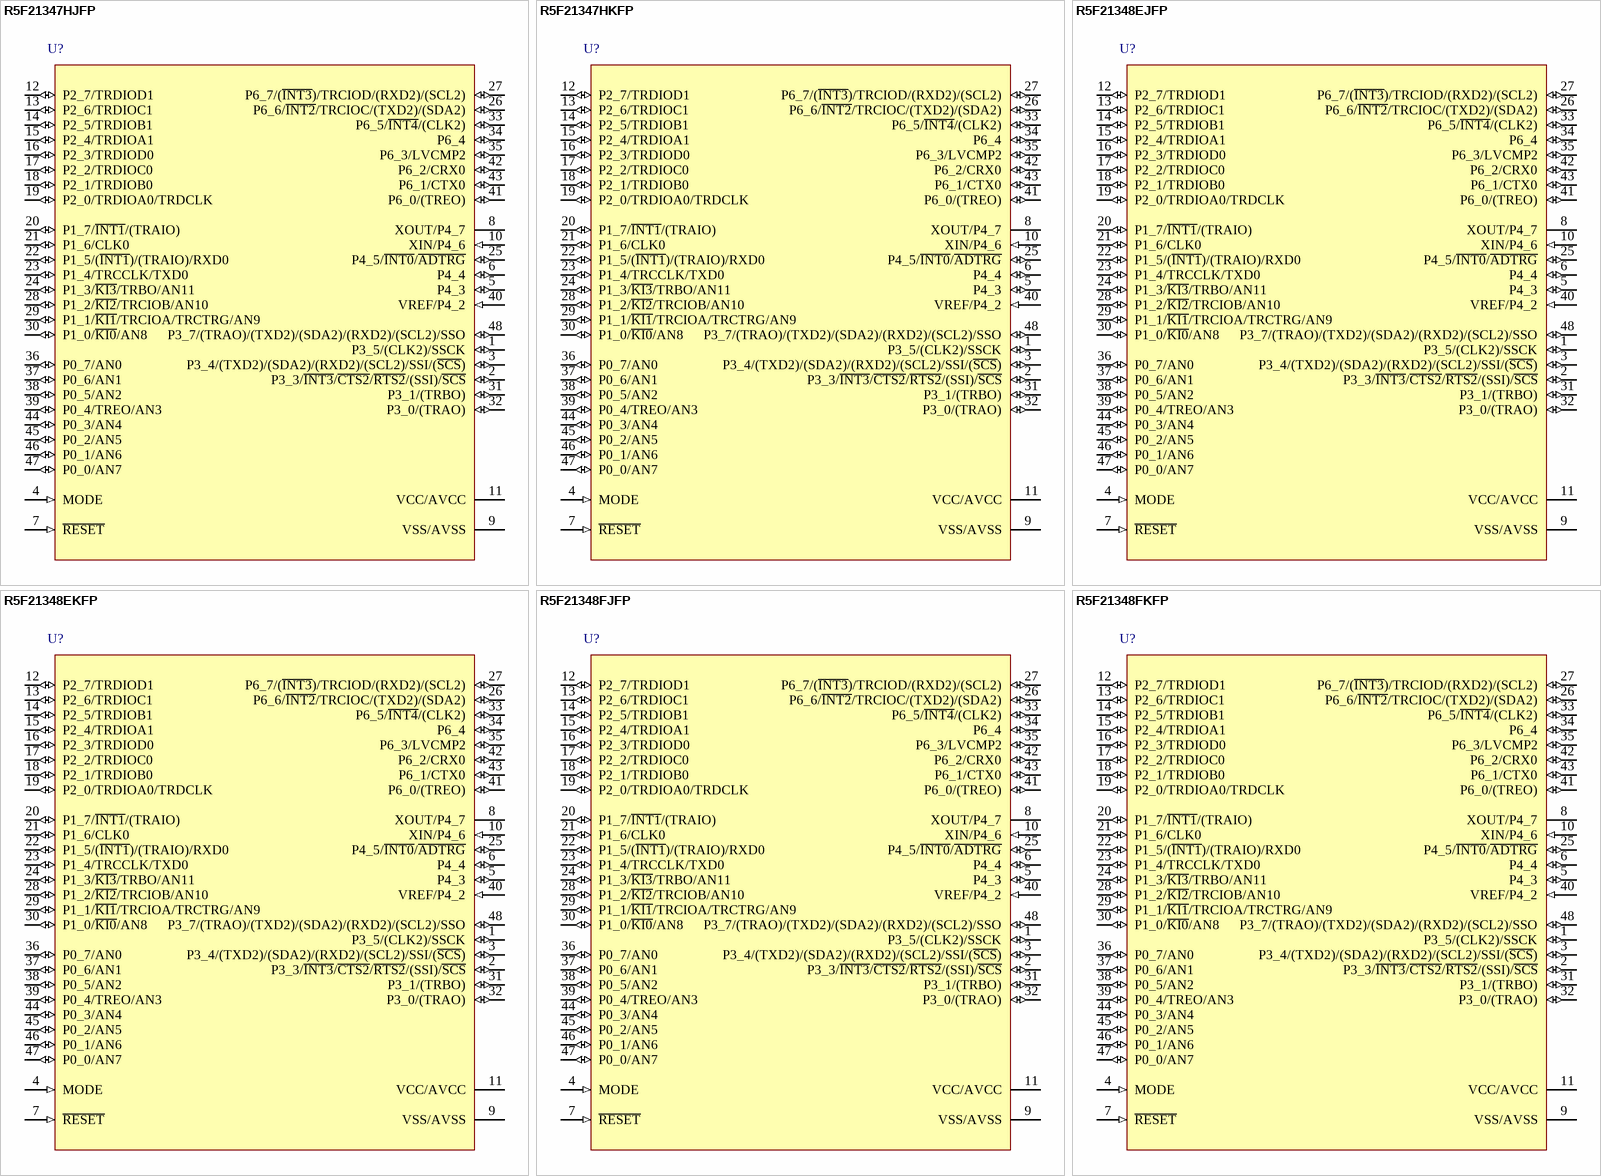
[diagram p97: symbols R5F21347HJFP to R5F21348FKFP]

## R5F21347HJFP
designator U?
R8C/34H Group Single Chip 16-Bit CMOS MCU, 48K ROM, 4K RAM, J Version; Published: 30-Oct-2009; DatasheetVersion: Rev.0.10, Apr-2008; PackageVersion: Oct-2005; PackageReference: PLQP0048KB-A; Publisher: Altium Limited; PackageDescription: 48-Pin Plastic Low Profile QFP, 7 x 7 x 1.4 mm Body, 0.5 mm Pitch; Code_JEITA: P-LQFP48-7x7-0.50; Code_IPC: SQFP50P900X900-48; ComponentLink1Description: Manufacturer Link; ComponentLink1URL: http://sg.renesas.com/fmwk.jsp?cnt=r8c_family_landing.jsp&fp=/products/mpumcu/r8c_family/; ComponentLink2Description: Datasheet; ComponentLink2URL: http://documentation.renesas.com/eng/products/mpumcu/rej03b0246_r8c34ess.pdf; ComponentLink3Description: Packaging Specification; ComponentLink3URL: http://sg.renesas.com/media/products/common_info/package/pdf/ic/code/plqp0048kb_a.pdf
footprint PLQP0048KB-A_N (Shrink QFP, 48-Leads, Body 7x7mm, Pitch 0.5mm, IPC Medium Density)
footprint PLQP0048KB-A_L (Shrink QFP, 48-Leads, Body 7x7mm, Pitch 0.5mm, IPC High Density)
footprint PLQP0048KB-A_M (Shrink QFP, 48-Leads, Body 7x7mm, Pitch 0.5mm, IPC Low Density)
pins: 1 P3_5/(CLK2)/SSCK (io), 2 P3_3/~{INT3}/~{CTS2}/~{RTS2}/(SSI)/~{SCS} (io), 3 P3_4/(TXD2)/(SDA2)/(RXD2)/(SCL2)/SSI/(~{SCS}) (io), 4 MODE (in), 5 P4_3 (io), 6 P4_4 (io), 7 ~{RESET} (in), 8 XOUT/P4_7, 9 VSS/AVSS (power), 10 XIN/P4_6 (in), 11 VCC/AVCC (power), 12 P2_7/TRDIOD1 (io), 13 P2_6/TRDIOC1 (io), 14 P2_5/TRDIOB1 (io), 15 P2_4/TRDIOA1 (io), 16 P2_3/TRDIOD0 (io), 17 P2_2/TRDIOC0 (io), 18 P2_1/TRDIOB0 (io), 19 P2_0/TRDIOA0/TRDCLK (io), 20 P1_7/~{INT1}/(TRAIO) (io), 21 P1_6/CLK0 (io), 22 P1_5/(~{INT1})/(TRAIO)/RXD0 (io), 23 P1_4/TRCCLK/TXD0 (io), 24 P1_3/~{KI3}/TRBO/AN11 (io), 25 P4_5/~{INT0}/~{ADTRG} (io), 26 P6_6/~{INT2}/TRCIOC/(TXD2)/(SDA2) (io), 27 P6_7/(~{INT3})/TRCIOD/(RXD2)/(SCL2) (io), 28 P1_2/~{KI2}/TRCIOB/AN10 (io), 29 P1_1/~{KI1}/TRCIOA/TRCTRG/AN9 (io), 30 P1_0/~{KI0}/AN8 (io), 31 P3_1/(TRBO) (io), 32 P3_0/(TRAO) (io), 33 P6_5/~{INT4}/(CLK2) (io), 34 P6_4 (io), 35 P6_3/LVCMP2 (io), 36 P0_7/AN0 (io), 37 P0_6/AN1 (io), 38 P0_5/AN2 (io), 39 P0_4/TREO/AN3 (io), 40 VREF/P4_2 (in), 41 P6_0/(TREO) (io), 42 P6_2/CRX0 (io), 43 P6_1/CTX0 (io), 44 P0_3/AN4 (io), 45 P0_2/AN5 (io), 46 P0_1/AN6 (io), 47 P0_0/AN7 (io), 48 P3_7/(TRAO)/(TXD2)/(SDA2)/(RXD2)/(SCL2)/SSO (io)

## R5F21347HKFP
designator U?
R8C/34H Group Single Chip 16-Bit CMOS MCU, 48K ROM, 4K RAM, K Version; Published: 30-Oct-2009; DatasheetVersion: Rev.0.10, Apr-2008; PackageVersion: Oct-2005; PackageReference: PLQP0048KB-A; Publisher: Altium Limited; PackageDescription: 48-Pin Plastic Low Profile QFP, 7 x 7 x 1.4 mm Body, 0.5 mm Pitch; Code_JEITA: P-LQFP48-7x7-0.50; Code_IPC: SQFP50P900X900-48; ComponentLink1Description: Manufacturer Link; ComponentLink1URL: http://sg.renesas.com/fmwk.jsp?cnt=r8c_family_landing.jsp&fp=/products/mpumcu/r8c_family/; ComponentLink2Description: Datasheet; ComponentLink2URL: http://documentation.renesas.com/eng/products/mpumcu/rej03b0246_r8c34ess.pdf; ComponentLink3Description: Packaging Specification; ComponentLink3URL: http://sg.renesas.com/media/products/common_info/package/pdf/ic/code/plqp0048kb_a.pdf
footprint PLQP0048KB-A_N (Shrink QFP, 48-Leads, Body 7x7mm, Pitch 0.5mm, IPC Medium Density)
footprint PLQP0048KB-A_L (Shrink QFP, 48-Leads, Body 7x7mm, Pitch 0.5mm, IPC High Density)
footprint PLQP0048KB-A_M (Shrink QFP, 48-Leads, Body 7x7mm, Pitch 0.5mm, IPC Low Density)
pins: 1 P3_5/(CLK2)/SSCK (io), 2 P3_3/~{INT3}/~{CTS2}/~{RTS2}/(SSI)/~{SCS} (io), 3 P3_4/(TXD2)/(SDA2)/(RXD2)/(SCL2)/SSI/(~{SCS}) (io), 4 MODE (in), 5 P4_3 (io), 6 P4_4 (io), 7 ~{RESET} (in), 8 XOUT/P4_7, 9 VSS/AVSS (power), 10 XIN/P4_6 (in), 11 VCC/AVCC (power), 12 P2_7/TRDIOD1 (io), 13 P2_6/TRDIOC1 (io), 14 P2_5/TRDIOB1 (io), 15 P2_4/TRDIOA1 (io), 16 P2_3/TRDIOD0 (io), 17 P2_2/TRDIOC0 (io), 18 P2_1/TRDIOB0 (io), 19 P2_0/TRDIOA0/TRDCLK (io), 20 P1_7/~{INT1}/(TRAIO) (io), 21 P1_6/CLK0 (io), 22 P1_5/(~{INT1})/(TRAIO)/RXD0 (io), 23 P1_4/TRCCLK/TXD0 (io), 24 P1_3/~{KI3}/TRBO/AN11 (io), 25 P4_5/~{INT0}/~{ADTRG} (io), 26 P6_6/~{INT2}/TRCIOC/(TXD2)/(SDA2) (io), 27 P6_7/(~{INT3})/TRCIOD/(RXD2)/(SCL2) (io), 28 P1_2/~{KI2}/TRCIOB/AN10 (io), 29 P1_1/~{KI1}/TRCIOA/TRCTRG/AN9 (io), 30 P1_0/~{KI0}/AN8 (io), 31 P3_1/(TRBO) (io), 32 P3_0/(TRAO) (io), 33 P6_5/~{INT4}/(CLK2) (io), 34 P6_4 (io), 35 P6_3/LVCMP2 (io), 36 P0_7/AN0 (io), 37 P0_6/AN1 (io), 38 P0_5/AN2 (io), 39 P0_4/TREO/AN3 (io), 40 VREF/P4_2 (in), 41 P6_0/(TREO) (io), 42 P6_2/CRX0 (io), 43 P6_1/CTX0 (io), 44 P0_3/AN4 (io), 45 P0_2/AN5 (io), 46 P0_1/AN6 (io), 47 P0_0/AN7 (io), 48 P3_7/(TRAO)/(TXD2)/(SDA2)/(RXD2)/(SCL2)/SSO (io)

## R5F21348EJFP
designator U?
R8C/34E Group Single Chip 16-Bit CMOS MCU, 64K ROM + 1K x4 Data Flash, 6K RAM, J Version; Published: 30-Oct-2009; DatasheetVersion: Rev.0.10, Apr-2008; PackageVersion: Oct-2005; PackageReference: PLQP0048KB-A; Publisher: Altium Limited; PackageDescription: 48-Pin Plastic Low Profile QFP, 7 x 7 x 1.4 mm Body, 0.5 mm Pitch; Code_JEITA: P-LQFP48-7x7-0.50; Code_IPC: SQFP50P900X900-48; ComponentLink1Description: Manufacturer Link; ComponentLink1URL: http://sg.renesas.com/fmwk.jsp?cnt=r8c_family_landing.jsp&fp=/products/mpumcu/r8c_family/; ComponentLink2Description: Datasheet; ComponentLink2URL: http://documentation.renesas.com/eng/products/mpumcu/rej03b0246_r8c34ess.pdf; ComponentLink3Description: Packaging Specification; ComponentLink3URL: http://sg.renesas.com/media/products/common_info/package/pdf/ic/code/plqp0048kb_a.pdf
footprint PLQP0048KB-A_N (Shrink QFP, 48-Leads, Body 7x7mm, Pitch 0.5mm, IPC Medium Density)
footprint PLQP0048KB-A_L (Shrink QFP, 48-Leads, Body 7x7mm, Pitch 0.5mm, IPC High Density)
footprint PLQP0048KB-A_M (Shrink QFP, 48-Leads, Body 7x7mm, Pitch 0.5mm, IPC Low Density)
pins: 1 P3_5/(CLK2)/SSCK (io), 2 P3_3/~{INT3}/~{CTS2}/~{RTS2}/(SSI)/~{SCS} (io), 3 P3_4/(TXD2)/(SDA2)/(RXD2)/(SCL2)/SSI/(~{SCS}) (io), 4 MODE (in), 5 P4_3 (io), 6 P4_4 (io), 7 ~{RESET} (in), 8 XOUT/P4_7, 9 VSS/AVSS (power), 10 XIN/P4_6 (in), 11 VCC/AVCC (power), 12 P2_7/TRDIOD1 (io), 13 P2_6/TRDIOC1 (io), 14 P2_5/TRDIOB1 (io), 15 P2_4/TRDIOA1 (io), 16 P2_3/TRDIOD0 (io), 17 P2_2/TRDIOC0 (io), 18 P2_1/TRDIOB0 (io), 19 P2_0/TRDIOA0/TRDCLK (io), 20 P1_7/~{INT1}/(TRAIO) (io), 21 P1_6/CLK0 (io), 22 P1_5/(~{INT1})/(TRAIO)/RXD0 (io), 23 P1_4/TRCCLK/TXD0 (io), 24 P1_3/~{KI3}/TRBO/AN11 (io), 25 P4_5/~{INT0}/~{ADTRG} (io), 26 P6_6/~{INT2}/TRCIOC/(TXD2)/(SDA2) (io), 27 P6_7/(~{INT3})/TRCIOD/(RXD2)/(SCL2) (io), 28 P1_2/~{KI2}/TRCIOB/AN10 (io), 29 P1_1/~{KI1}/TRCIOA/TRCTRG/AN9 (io), 30 P1_0/~{KI0}/AN8 (io), 31 P3_1/(TRBO) (io), 32 P3_0/(TRAO) (io), 33 P6_5/~{INT4}/(CLK2) (io), 34 P6_4 (io), 35 P6_3/LVCMP2 (io), 36 P0_7/AN0 (io), 37 P0_6/AN1 (io), 38 P0_5/AN2 (io), 39 P0_4/TREO/AN3 (io), 40 VREF/P4_2 (in), 41 P6_0/(TREO) (io), 42 P6_2/CRX0 (io), 43 P6_1/CTX0 (io), 44 P0_3/AN4 (io), 45 P0_2/AN5 (io), 46 P0_1/AN6 (io), 47 P0_0/AN7 (io), 48 P3_7/(TRAO)/(TXD2)/(SDA2)/(RXD2)/(SCL2)/SSO (io)

## R5F21348EKFP
designator U?
R8C/34E Group Single Chip 16-Bit CMOS MCU, 64K ROM + 1K x4 Data Flash, 6K RAM, K Version; Published: 30-Oct-2009; DatasheetVersion: Rev.0.10, Apr-2008; PackageVersion: Oct-2005; PackageReference: PLQP0048KB-A; Publisher: Altium Limited; PackageDescription: 48-Pin Plastic Low Profile QFP, 7 x 7 x 1.4 mm Body, 0.5 mm Pitch; Code_JEITA: P-LQFP48-7x7-0.50; Code_IPC: SQFP50P900X900-48; ComponentLink1Description: Manufacturer Link; ComponentLink1URL: http://sg.renesas.com/fmwk.jsp?cnt=r8c_family_landing.jsp&fp=/products/mpumcu/r8c_family/; ComponentLink2Description: Datasheet; ComponentLink2URL: http://documentation.renesas.com/eng/products/mpumcu/rej03b0246_r8c34ess.pdf; ComponentLink3Description: Packaging Specification; ComponentLink3URL: http://sg.renesas.com/media/products/common_info/package/pdf/ic/code/plqp0048kb_a.pdf
footprint PLQP0048KB-A_N (Shrink QFP, 48-Leads, Body 7x7mm, Pitch 0.5mm, IPC Medium Density)
footprint PLQP0048KB-A_L (Shrink QFP, 48-Leads, Body 7x7mm, Pitch 0.5mm, IPC High Density)
footprint PLQP0048KB-A_M (Shrink QFP, 48-Leads, Body 7x7mm, Pitch 0.5mm, IPC Low Density)
pins: 1 P3_5/(CLK2)/SSCK (io), 2 P3_3/~{INT3}/~{CTS2}/~{RTS2}/(SSI)/~{SCS} (io), 3 P3_4/(TXD2)/(SDA2)/(RXD2)/(SCL2)/SSI/(~{SCS}) (io), 4 MODE (in), 5 P4_3 (io), 6 P4_4 (io), 7 ~{RESET} (in), 8 XOUT/P4_7, 9 VSS/AVSS (power), 10 XIN/P4_6 (in), 11 VCC/AVCC (power), 12 P2_7/TRDIOD1 (io), 13 P2_6/TRDIOC1 (io), 14 P2_5/TRDIOB1 (io), 15 P2_4/TRDIOA1 (io), 16 P2_3/TRDIOD0 (io), 17 P2_2/TRDIOC0 (io), 18 P2_1/TRDIOB0 (io), 19 P2_0/TRDIOA0/TRDCLK (io), 20 P1_7/~{INT1}/(TRAIO) (io), 21 P1_6/CLK0 (io), 22 P1_5/(~{INT1})/(TRAIO)/RXD0 (io), 23 P1_4/TRCCLK/TXD0 (io), 24 P1_3/~{KI3}/TRBO/AN11 (io), 25 P4_5/~{INT0}/~{ADTRG} (io), 26 P6_6/~{INT2}/TRCIOC/(TXD2)/(SDA2) (io), 27 P6_7/(~{INT3})/TRCIOD/(RXD2)/(SCL2) (io), 28 P1_2/~{KI2}/TRCIOB/AN10 (io), 29 P1_1/~{KI1}/TRCIOA/TRCTRG/AN9 (io), 30 P1_0/~{KI0}/AN8 (io), 31 P3_1/(TRBO) (io), 32 P3_0/(TRAO) (io), 33 P6_5/~{INT4}/(CLK2) (io), 34 P6_4 (io), 35 P6_3/LVCMP2 (io), 36 P0_7/AN0 (io), 37 P0_6/AN1 (io), 38 P0_5/AN2 (io), 39 P0_4/TREO/AN3 (io), 40 VREF/P4_2 (in), 41 P6_0/(TREO) (io), 42 P6_2/CRX0 (io), 43 P6_1/CTX0 (io), 44 P0_3/AN4 (io), 45 P0_2/AN5 (io), 46 P0_1/AN6 (io), 47 P0_0/AN7 (io), 48 P3_7/(TRAO)/(TXD2)/(SDA2)/(RXD2)/(SCL2)/SSO (io)

## R5F21348FJFP
designator U?
R8C/34F Group Single Chip 16-Bit CMOS MCU, 64K ROM, 6K RAM, J Version; Published: 30-Oct-2009; DatasheetVersion: Rev.0.10, Apr-2008; PackageVersion: Oct-2005; PackageReference: PLQP0048KB-A; Publisher: Altium Limited; PackageDescription: 48-Pin Plastic Low Profile QFP, 7 x 7 x 1.4 mm Body, 0.5 mm Pitch; Code_JEITA: P-LQFP48-7x7-0.50; Code_IPC: SQFP50P900X900-48; ComponentLink1Description: Manufacturer Link; ComponentLink1URL: http://sg.renesas.com/fmwk.jsp?cnt=r8c_family_landing.jsp&fp=/products/mpumcu/r8c_family/; ComponentLink2Description: Datasheet; ComponentLink2URL: http://documentation.renesas.com/eng/products/mpumcu/rej03b0246_r8c34ess.pdf; ComponentLink3Description: Packaging Specification; ComponentLink3URL: http://sg.renesas.com/media/products/common_info/package/pdf/ic/code/plqp0048kb_a.pdf
footprint PLQP0048KB-A_N (Shrink QFP, 48-Leads, Body 7x7mm, Pitch 0.5mm, IPC Medium Density)
footprint PLQP0048KB-A_L (Shrink QFP, 48-Leads, Body 7x7mm, Pitch 0.5mm, IPC High Density)
footprint PLQP0048KB-A_M (Shrink QFP, 48-Leads, Body 7x7mm, Pitch 0.5mm, IPC Low Density)
pins: 1 P3_5/(CLK2)/SSCK (io), 2 P3_3/~{INT3}/~{CTS2}/~{RTS2}/(SSI)/~{SCS} (io), 3 P3_4/(TXD2)/(SDA2)/(RXD2)/(SCL2)/SSI/(~{SCS}) (io), 4 MODE (in), 5 P4_3 (io), 6 P4_4 (io), 7 ~{RESET} (in), 8 XOUT/P4_7, 9 VSS/AVSS (power), 10 XIN/P4_6 (in), 11 VCC/AVCC (power), 12 P2_7/TRDIOD1 (io), 13 P2_6/TRDIOC1 (io), 14 P2_5/TRDIOB1 (io), 15 P2_4/TRDIOA1 (io), 16 P2_3/TRDIOD0 (io), 17 P2_2/TRDIOC0 (io), 18 P2_1/TRDIOB0 (io), 19 P2_0/TRDIOA0/TRDCLK (io), 20 P1_7/~{INT1}/(TRAIO) (io), 21 P1_6/CLK0 (io), 22 P1_5/(~{INT1})/(TRAIO)/RXD0 (io), 23 P1_4/TRCCLK/TXD0 (io), 24 P1_3/~{KI3}/TRBO/AN11 (io), 25 P4_5/~{INT0}/~{ADTRG} (io), 26 P6_6/~{INT2}/TRCIOC/(TXD2)/(SDA2) (io), 27 P6_7/(~{INT3})/TRCIOD/(RXD2)/(SCL2) (io), 28 P1_2/~{KI2}/TRCIOB/AN10 (io), 29 P1_1/~{KI1}/TRCIOA/TRCTRG/AN9 (io), 30 P1_0/~{KI0}/AN8 (io), 31 P3_1/(TRBO) (io), 32 P3_0/(TRAO) (io), 33 P6_5/~{INT4}/(CLK2) (io), 34 P6_4 (io), 35 P6_3/LVCMP2 (io), 36 P0_7/AN0 (io), 37 P0_6/AN1 (io), 38 P0_5/AN2 (io), 39 P0_4/TREO/AN3 (io), 40 VREF/P4_2 (in), 41 P6_0/(TREO) (io), 42 P6_2/CRX0 (io), 43 P6_1/CTX0 (io), 44 P0_3/AN4 (io), 45 P0_2/AN5 (io), 46 P0_1/AN6 (io), 47 P0_0/AN7 (io), 48 P3_7/(TRAO)/(TXD2)/(SDA2)/(RXD2)/(SCL2)/SSO (io)

## R5F21348FKFP
designator U?
R8C/34F Group Single Chip 16-Bit CMOS MCU, 64K ROM, 6K RAM, K Version; Published: 30-Oct-2009; DatasheetVersion: Rev.0.10, Apr-2008; PackageVersion: Oct-2005; PackageReference: PLQP0048KB-A; Publisher: Altium Limited; PackageDescription: 48-Pin Plastic Low Profile QFP, 7 x 7 x 1.4 mm Body, 0.5 mm Pitch; Code_JEITA: P-LQFP48-7x7-0.50; Code_IPC: SQFP50P900X900-48; ComponentLink1Description: Manufacturer Link; ComponentLink1URL: http://sg.renesas.com/fmwk.jsp?cnt=r8c_family_landing.jsp&fp=/products/mpumcu/r8c_family/; ComponentLink2Description: Datasheet; ComponentLink2URL: http://documentation.renesas.com/eng/products/mpumcu/rej03b0246_r8c34ess.pdf; ComponentLink3Description: Packaging Specification; ComponentLink3URL: http://sg.renesas.com/media/products/common_info/package/pdf/ic/code/plqp0048kb_a.pdf
footprint PLQP0048KB-A_N (Shrink QFP, 48-Leads, Body 7x7mm, Pitch 0.5mm, IPC Medium Density)
footprint PLQP0048KB-A_L (Shrink QFP, 48-Leads, Body 7x7mm, Pitch 0.5mm, IPC High Density)
footprint PLQP0048KB-A_M (Shrink QFP, 48-Leads, Body 7x7mm, Pitch 0.5mm, IPC Low Density)
pins: 1 P3_5/(CLK2)/SSCK (io), 2 P3_3/~{INT3}/~{CTS2}/~{RTS2}/(SSI)/~{SCS} (io), 3 P3_4/(TXD2)/(SDA2)/(RXD2)/(SCL2)/SSI/(~{SCS}) (io), 4 MODE (in), 5 P4_3 (io), 6 P4_4 (io), 7 ~{RESET} (in), 8 XOUT/P4_7, 9 VSS/AVSS (power), 10 XIN/P4_6 (in), 11 VCC/AVCC (power), 12 P2_7/TRDIOD1 (io), 13 P2_6/TRDIOC1 (io), 14 P2_5/TRDIOB1 (io), 15 P2_4/TRDIOA1 (io), 16 P2_3/TRDIOD0 (io), 17 P2_2/TRDIOC0 (io), 18 P2_1/TRDIOB0 (io), 19 P2_0/TRDIOA0/TRDCLK (io), 20 P1_7/~{INT1}/(TRAIO) (io), 21 P1_6/CLK0 (io), 22 P1_5/(~{INT1})/(TRAIO)/RXD0 (io), 23 P1_4/TRCCLK/TXD0 (io), 24 P1_3/~{KI3}/TRBO/AN11 (io), 25 P4_5/~{INT0}/~{ADTRG} (io), 26 P6_6/~{INT2}/TRCIOC/(TXD2)/(SDA2) (io), 27 P6_7/(~{INT3})/TRCIOD/(RXD2)/(SCL2) (io), 28 P1_2/~{KI2}/TRCIOB/AN10 (io), 29 P1_1/~{KI1}/TRCIOA/TRCTRG/AN9 (io), 30 P1_0/~{KI0}/AN8 (io), 31 P3_1/(TRBO) (io), 32 P3_0/(TRAO) (io), 33 P6_5/~{INT4}/(CLK2) (io), 34 P6_4 (io), 35 P6_3/LVCMP2 (io), 36 P0_7/AN0 (io), 37 P0_6/AN1 (io), 38 P0_5/AN2 (io), 39 P0_4/TREO/AN3 (io), 40 VREF/P4_2 (in), 41 P6_0/(TREO) (io), 42 P6_2/CRX0 (io), 43 P6_1/CTX0 (io), 44 P0_3/AN4 (io), 45 P0_2/AN5 (io), 46 P0_1/AN6 (io), 47 P0_0/AN7 (io), 48 P3_7/(TRAO)/(TXD2)/(SDA2)/(RXD2)/(SCL2)/SSO (io)

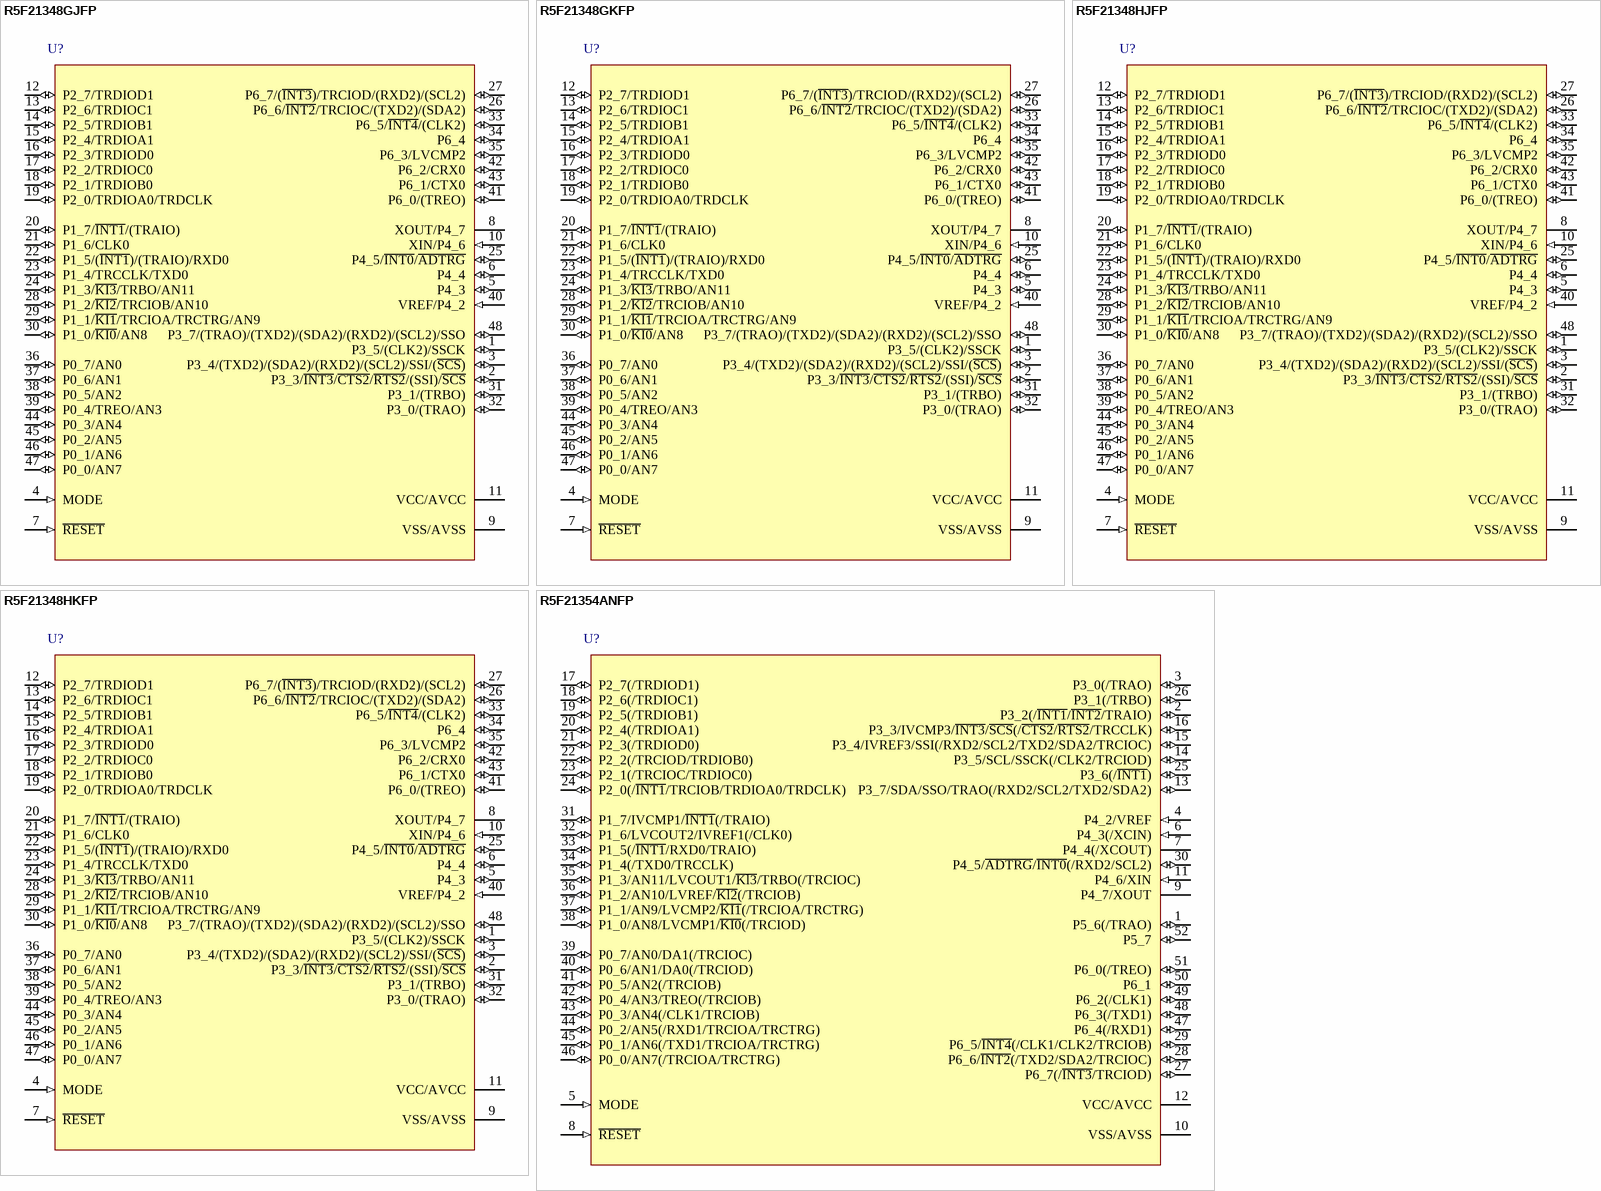
[diagram p98: symbols R5F21348GJFP to R5F21354ANFP]

## R5F21348GJFP
designator U?
R8C/34G Group Single Chip 16-Bit CMOS MCU, 64K ROM + 1K x4 Data Flash, 6K RAM, J Version; Published: 30-Oct-2009; DatasheetVersion: Rev.0.10, Apr-2008; PackageVersion: Oct-2005; PackageReference: PLQP0048KB-A; Publisher: Altium Limited; PackageDescription: 48-Pin Plastic Low Profile QFP, 7 x 7 x 1.4 mm Body, 0.5 mm Pitch; Code_JEITA: P-LQFP48-7x7-0.50; Code_IPC: SQFP50P900X900-48; ComponentLink1Description: Manufacturer Link; ComponentLink1URL: http://sg.renesas.com/fmwk.jsp?cnt=r8c_family_landing.jsp&fp=/products/mpumcu/r8c_family/; ComponentLink2Description: Datasheet; ComponentLink2URL: http://documentation.renesas.com/eng/products/mpumcu/rej03b0246_r8c34ess.pdf; ComponentLink3Description: Packaging Specification; ComponentLink3URL: http://sg.renesas.com/media/products/common_info/package/pdf/ic/code/plqp0048kb_a.pdf
footprint PLQP0048KB-A_N (Shrink QFP, 48-Leads, Body 7x7mm, Pitch 0.5mm, IPC Medium Density)
footprint PLQP0048KB-A_L (Shrink QFP, 48-Leads, Body 7x7mm, Pitch 0.5mm, IPC High Density)
footprint PLQP0048KB-A_M (Shrink QFP, 48-Leads, Body 7x7mm, Pitch 0.5mm, IPC Low Density)
pins: 1 P3_5/(CLK2)/SSCK (io), 2 P3_3/~{INT3}/~{CTS2}/~{RTS2}/(SSI)/~{SCS} (io), 3 P3_4/(TXD2)/(SDA2)/(RXD2)/(SCL2)/SSI/(~{SCS}) (io), 4 MODE (in), 5 P4_3 (io), 6 P4_4 (io), 7 ~{RESET} (in), 8 XOUT/P4_7, 9 VSS/AVSS (power), 10 XIN/P4_6 (in), 11 VCC/AVCC (power), 12 P2_7/TRDIOD1 (io), 13 P2_6/TRDIOC1 (io), 14 P2_5/TRDIOB1 (io), 15 P2_4/TRDIOA1 (io), 16 P2_3/TRDIOD0 (io), 17 P2_2/TRDIOC0 (io), 18 P2_1/TRDIOB0 (io), 19 P2_0/TRDIOA0/TRDCLK (io), 20 P1_7/~{INT1}/(TRAIO) (io), 21 P1_6/CLK0 (io), 22 P1_5/(~{INT1})/(TRAIO)/RXD0 (io), 23 P1_4/TRCCLK/TXD0 (io), 24 P1_3/~{KI3}/TRBO/AN11 (io), 25 P4_5/~{INT0}/~{ADTRG} (io), 26 P6_6/~{INT2}/TRCIOC/(TXD2)/(SDA2) (io), 27 P6_7/(~{INT3})/TRCIOD/(RXD2)/(SCL2) (io), 28 P1_2/~{KI2}/TRCIOB/AN10 (io), 29 P1_1/~{KI1}/TRCIOA/TRCTRG/AN9 (io), 30 P1_0/~{KI0}/AN8 (io), 31 P3_1/(TRBO) (io), 32 P3_0/(TRAO) (io), 33 P6_5/~{INT4}/(CLK2) (io), 34 P6_4 (io), 35 P6_3/LVCMP2 (io), 36 P0_7/AN0 (io), 37 P0_6/AN1 (io), 38 P0_5/AN2 (io), 39 P0_4/TREO/AN3 (io), 40 VREF/P4_2 (in), 41 P6_0/(TREO) (io), 42 P6_2/CRX0 (io), 43 P6_1/CTX0 (io), 44 P0_3/AN4 (io), 45 P0_2/AN5 (io), 46 P0_1/AN6 (io), 47 P0_0/AN7 (io), 48 P3_7/(TRAO)/(TXD2)/(SDA2)/(RXD2)/(SCL2)/SSO (io)

## R5F21348GKFP
designator U?
R8C/34G Group Single Chip 16-Bit CMOS MCU, 64K ROM + 1K x4 Data Flash, 6K RAM, K Version; Published: 30-Oct-2009; DatasheetVersion: Rev.0.10, Apr-2008; PackageVersion: Oct-2005; PackageReference: PLQP0048KB-A; Publisher: Altium Limited; PackageDescription: 48-Pin Plastic Low Profile QFP, 7 x 7 x 1.4 mm Body, 0.5 mm Pitch; Code_JEITA: P-LQFP48-7x7-0.50; Code_IPC: SQFP50P900X900-48; ComponentLink1Description: Manufacturer Link; ComponentLink1URL: http://sg.renesas.com/fmwk.jsp?cnt=r8c_family_landing.jsp&fp=/products/mpumcu/r8c_family/; ComponentLink2Description: Datasheet; ComponentLink2URL: http://documentation.renesas.com/eng/products/mpumcu/rej03b0246_r8c34ess.pdf; ComponentLink3Description: Packaging Specification; ComponentLink3URL: http://sg.renesas.com/media/products/common_info/package/pdf/ic/code/plqp0048kb_a.pdf
footprint PLQP0048KB-A_N (Shrink QFP, 48-Leads, Body 7x7mm, Pitch 0.5mm, IPC Medium Density)
footprint PLQP0048KB-A_L (Shrink QFP, 48-Leads, Body 7x7mm, Pitch 0.5mm, IPC High Density)
footprint PLQP0048KB-A_M (Shrink QFP, 48-Leads, Body 7x7mm, Pitch 0.5mm, IPC Low Density)
pins: 1 P3_5/(CLK2)/SSCK (io), 2 P3_3/~{INT3}/~{CTS2}/~{RTS2}/(SSI)/~{SCS} (io), 3 P3_4/(TXD2)/(SDA2)/(RXD2)/(SCL2)/SSI/(~{SCS}) (io), 4 MODE (in), 5 P4_3 (io), 6 P4_4 (io), 7 ~{RESET} (in), 8 XOUT/P4_7, 9 VSS/AVSS (power), 10 XIN/P4_6 (in), 11 VCC/AVCC (power), 12 P2_7/TRDIOD1 (io), 13 P2_6/TRDIOC1 (io), 14 P2_5/TRDIOB1 (io), 15 P2_4/TRDIOA1 (io), 16 P2_3/TRDIOD0 (io), 17 P2_2/TRDIOC0 (io), 18 P2_1/TRDIOB0 (io), 19 P2_0/TRDIOA0/TRDCLK (io), 20 P1_7/~{INT1}/(TRAIO) (io), 21 P1_6/CLK0 (io), 22 P1_5/(~{INT1})/(TRAIO)/RXD0 (io), 23 P1_4/TRCCLK/TXD0 (io), 24 P1_3/~{KI3}/TRBO/AN11 (io), 25 P4_5/~{INT0}/~{ADTRG} (io), 26 P6_6/~{INT2}/TRCIOC/(TXD2)/(SDA2) (io), 27 P6_7/(~{INT3})/TRCIOD/(RXD2)/(SCL2) (io), 28 P1_2/~{KI2}/TRCIOB/AN10 (io), 29 P1_1/~{KI1}/TRCIOA/TRCTRG/AN9 (io), 30 P1_0/~{KI0}/AN8 (io), 31 P3_1/(TRBO) (io), 32 P3_0/(TRAO) (io), 33 P6_5/~{INT4}/(CLK2) (io), 34 P6_4 (io), 35 P6_3/LVCMP2 (io), 36 P0_7/AN0 (io), 37 P0_6/AN1 (io), 38 P0_5/AN2 (io), 39 P0_4/TREO/AN3 (io), 40 VREF/P4_2 (in), 41 P6_0/(TREO) (io), 42 P6_2/CRX0 (io), 43 P6_1/CTX0 (io), 44 P0_3/AN4 (io), 45 P0_2/AN5 (io), 46 P0_1/AN6 (io), 47 P0_0/AN7 (io), 48 P3_7/(TRAO)/(TXD2)/(SDA2)/(RXD2)/(SCL2)/SSO (io)

## R5F21348HJFP
designator U?
R8C/34H Group Single Chip 16-Bit CMOS MCU, 64K ROM, 6K RAM, J Version; Published: 30-Oct-2009; DatasheetVersion: Rev.0.10, Apr-2008; PackageVersion: Oct-2005; PackageReference: PLQP0048KB-A; Publisher: Altium Limited; PackageDescription: 48-Pin Plastic Low Profile QFP, 7 x 7 x 1.4 mm Body, 0.5 mm Pitch; Code_JEITA: P-LQFP48-7x7-0.50; Code_IPC: SQFP50P900X900-48; ComponentLink1Description: Manufacturer Link; ComponentLink1URL: http://sg.renesas.com/fmwk.jsp?cnt=r8c_family_landing.jsp&fp=/products/mpumcu/r8c_family/; ComponentLink2Description: Datasheet; ComponentLink2URL: http://documentation.renesas.com/eng/products/mpumcu/rej03b0246_r8c34ess.pdf; ComponentLink3Description: Packaging Specification; ComponentLink3URL: http://sg.renesas.com/media/products/common_info/package/pdf/ic/code/plqp0048kb_a.pdf
footprint PLQP0048KB-A_N (Shrink QFP, 48-Leads, Body 7x7mm, Pitch 0.5mm, IPC Medium Density)
footprint PLQP0048KB-A_L (Shrink QFP, 48-Leads, Body 7x7mm, Pitch 0.5mm, IPC High Density)
footprint PLQP0048KB-A_M (Shrink QFP, 48-Leads, Body 7x7mm, Pitch 0.5mm, IPC Low Density)
pins: 1 P3_5/(CLK2)/SSCK (io), 2 P3_3/~{INT3}/~{CTS2}/~{RTS2}/(SSI)/~{SCS} (io), 3 P3_4/(TXD2)/(SDA2)/(RXD2)/(SCL2)/SSI/(~{SCS}) (io), 4 MODE (in), 5 P4_3 (io), 6 P4_4 (io), 7 ~{RESET} (in), 8 XOUT/P4_7, 9 VSS/AVSS (power), 10 XIN/P4_6 (in), 11 VCC/AVCC (power), 12 P2_7/TRDIOD1 (io), 13 P2_6/TRDIOC1 (io), 14 P2_5/TRDIOB1 (io), 15 P2_4/TRDIOA1 (io), 16 P2_3/TRDIOD0 (io), 17 P2_2/TRDIOC0 (io), 18 P2_1/TRDIOB0 (io), 19 P2_0/TRDIOA0/TRDCLK (io), 20 P1_7/~{INT1}/(TRAIO) (io), 21 P1_6/CLK0 (io), 22 P1_5/(~{INT1})/(TRAIO)/RXD0 (io), 23 P1_4/TRCCLK/TXD0 (io), 24 P1_3/~{KI3}/TRBO/AN11 (io), 25 P4_5/~{INT0}/~{ADTRG} (io), 26 P6_6/~{INT2}/TRCIOC/(TXD2)/(SDA2) (io), 27 P6_7/(~{INT3})/TRCIOD/(RXD2)/(SCL2) (io), 28 P1_2/~{KI2}/TRCIOB/AN10 (io), 29 P1_1/~{KI1}/TRCIOA/TRCTRG/AN9 (io), 30 P1_0/~{KI0}/AN8 (io), 31 P3_1/(TRBO) (io), 32 P3_0/(TRAO) (io), 33 P6_5/~{INT4}/(CLK2) (io), 34 P6_4 (io), 35 P6_3/LVCMP2 (io), 36 P0_7/AN0 (io), 37 P0_6/AN1 (io), 38 P0_5/AN2 (io), 39 P0_4/TREO/AN3 (io), 40 VREF/P4_2 (in), 41 P6_0/(TREO) (io), 42 P6_2/CRX0 (io), 43 P6_1/CTX0 (io), 44 P0_3/AN4 (io), 45 P0_2/AN5 (io), 46 P0_1/AN6 (io), 47 P0_0/AN7 (io), 48 P3_7/(TRAO)/(TXD2)/(SDA2)/(RXD2)/(SCL2)/SSO (io)

## R5F21348HKFP
designator U?
R8C/34H Group Single Chip 16-Bit CMOS MCU, 64K ROM, 6K RAM, K Version; Published: 30-Oct-2009; DatasheetVersion: Rev.0.10, Apr-2008; PackageVersion: Oct-2005; PackageReference: PLQP0048KB-A; Publisher: Altium Limited; PackageDescription: 48-Pin Plastic Low Profile QFP, 7 x 7 x 1.4 mm Body, 0.5 mm Pitch; Code_JEITA: P-LQFP48-7x7-0.50; Code_IPC: SQFP50P900X900-48; ComponentLink1Description: Manufacturer Link; ComponentLink1URL: http://sg.renesas.com/fmwk.jsp?cnt=r8c_family_landing.jsp&fp=/products/mpumcu/r8c_family/; ComponentLink2Description: Datasheet; ComponentLink2URL: http://documentation.renesas.com/eng/products/mpumcu/rej03b0246_r8c34ess.pdf; ComponentLink3Description: Packaging Specification; ComponentLink3URL: http://sg.renesas.com/media/products/common_info/package/pdf/ic/code/plqp0048kb_a.pdf
footprint PLQP0048KB-A_N (Shrink QFP, 48-Leads, Body 7x7mm, Pitch 0.5mm, IPC Medium Density)
footprint PLQP0048KB-A_L (Shrink QFP, 48-Leads, Body 7x7mm, Pitch 0.5mm, IPC High Density)
footprint PLQP0048KB-A_M (Shrink QFP, 48-Leads, Body 7x7mm, Pitch 0.5mm, IPC Low Density)
pins: 1 P3_5/(CLK2)/SSCK (io), 2 P3_3/~{INT3}/~{CTS2}/~{RTS2}/(SSI)/~{SCS} (io), 3 P3_4/(TXD2)/(SDA2)/(RXD2)/(SCL2)/SSI/(~{SCS}) (io), 4 MODE (in), 5 P4_3 (io), 6 P4_4 (io), 7 ~{RESET} (in), 8 XOUT/P4_7, 9 VSS/AVSS (power), 10 XIN/P4_6 (in), 11 VCC/AVCC (power), 12 P2_7/TRDIOD1 (io), 13 P2_6/TRDIOC1 (io), 14 P2_5/TRDIOB1 (io), 15 P2_4/TRDIOA1 (io), 16 P2_3/TRDIOD0 (io), 17 P2_2/TRDIOC0 (io), 18 P2_1/TRDIOB0 (io), 19 P2_0/TRDIOA0/TRDCLK (io), 20 P1_7/~{INT1}/(TRAIO) (io), 21 P1_6/CLK0 (io), 22 P1_5/(~{INT1})/(TRAIO)/RXD0 (io), 23 P1_4/TRCCLK/TXD0 (io), 24 P1_3/~{KI3}/TRBO/AN11 (io), 25 P4_5/~{INT0}/~{ADTRG} (io), 26 P6_6/~{INT2}/TRCIOC/(TXD2)/(SDA2) (io), 27 P6_7/(~{INT3})/TRCIOD/(RXD2)/(SCL2) (io), 28 P1_2/~{KI2}/TRCIOB/AN10 (io), 29 P1_1/~{KI1}/TRCIOA/TRCTRG/AN9 (io), 30 P1_0/~{KI0}/AN8 (io), 31 P3_1/(TRBO) (io), 32 P3_0/(TRAO) (io), 33 P6_5/~{INT4}/(CLK2) (io), 34 P6_4 (io), 35 P6_3/LVCMP2 (io), 36 P0_7/AN0 (io), 37 P0_6/AN1 (io), 38 P0_5/AN2 (io), 39 P0_4/TREO/AN3 (io), 40 VREF/P4_2 (in), 41 P6_0/(TREO) (io), 42 P6_2/CRX0 (io), 43 P6_1/CTX0 (io), 44 P0_3/AN4 (io), 45 P0_2/AN5 (io), 46 P0_1/AN6 (io), 47 P0_0/AN7 (io), 48 P3_7/(TRAO)/(TXD2)/(SDA2)/(RXD2)/(SCL2)/SSO (io)